# Altium schematic symbol library Wurth_Elektronik_Electromechanic_Wire_to_Board_Connectors_rev16a.SCHLIB: 662 symbols (part 4 of 10)
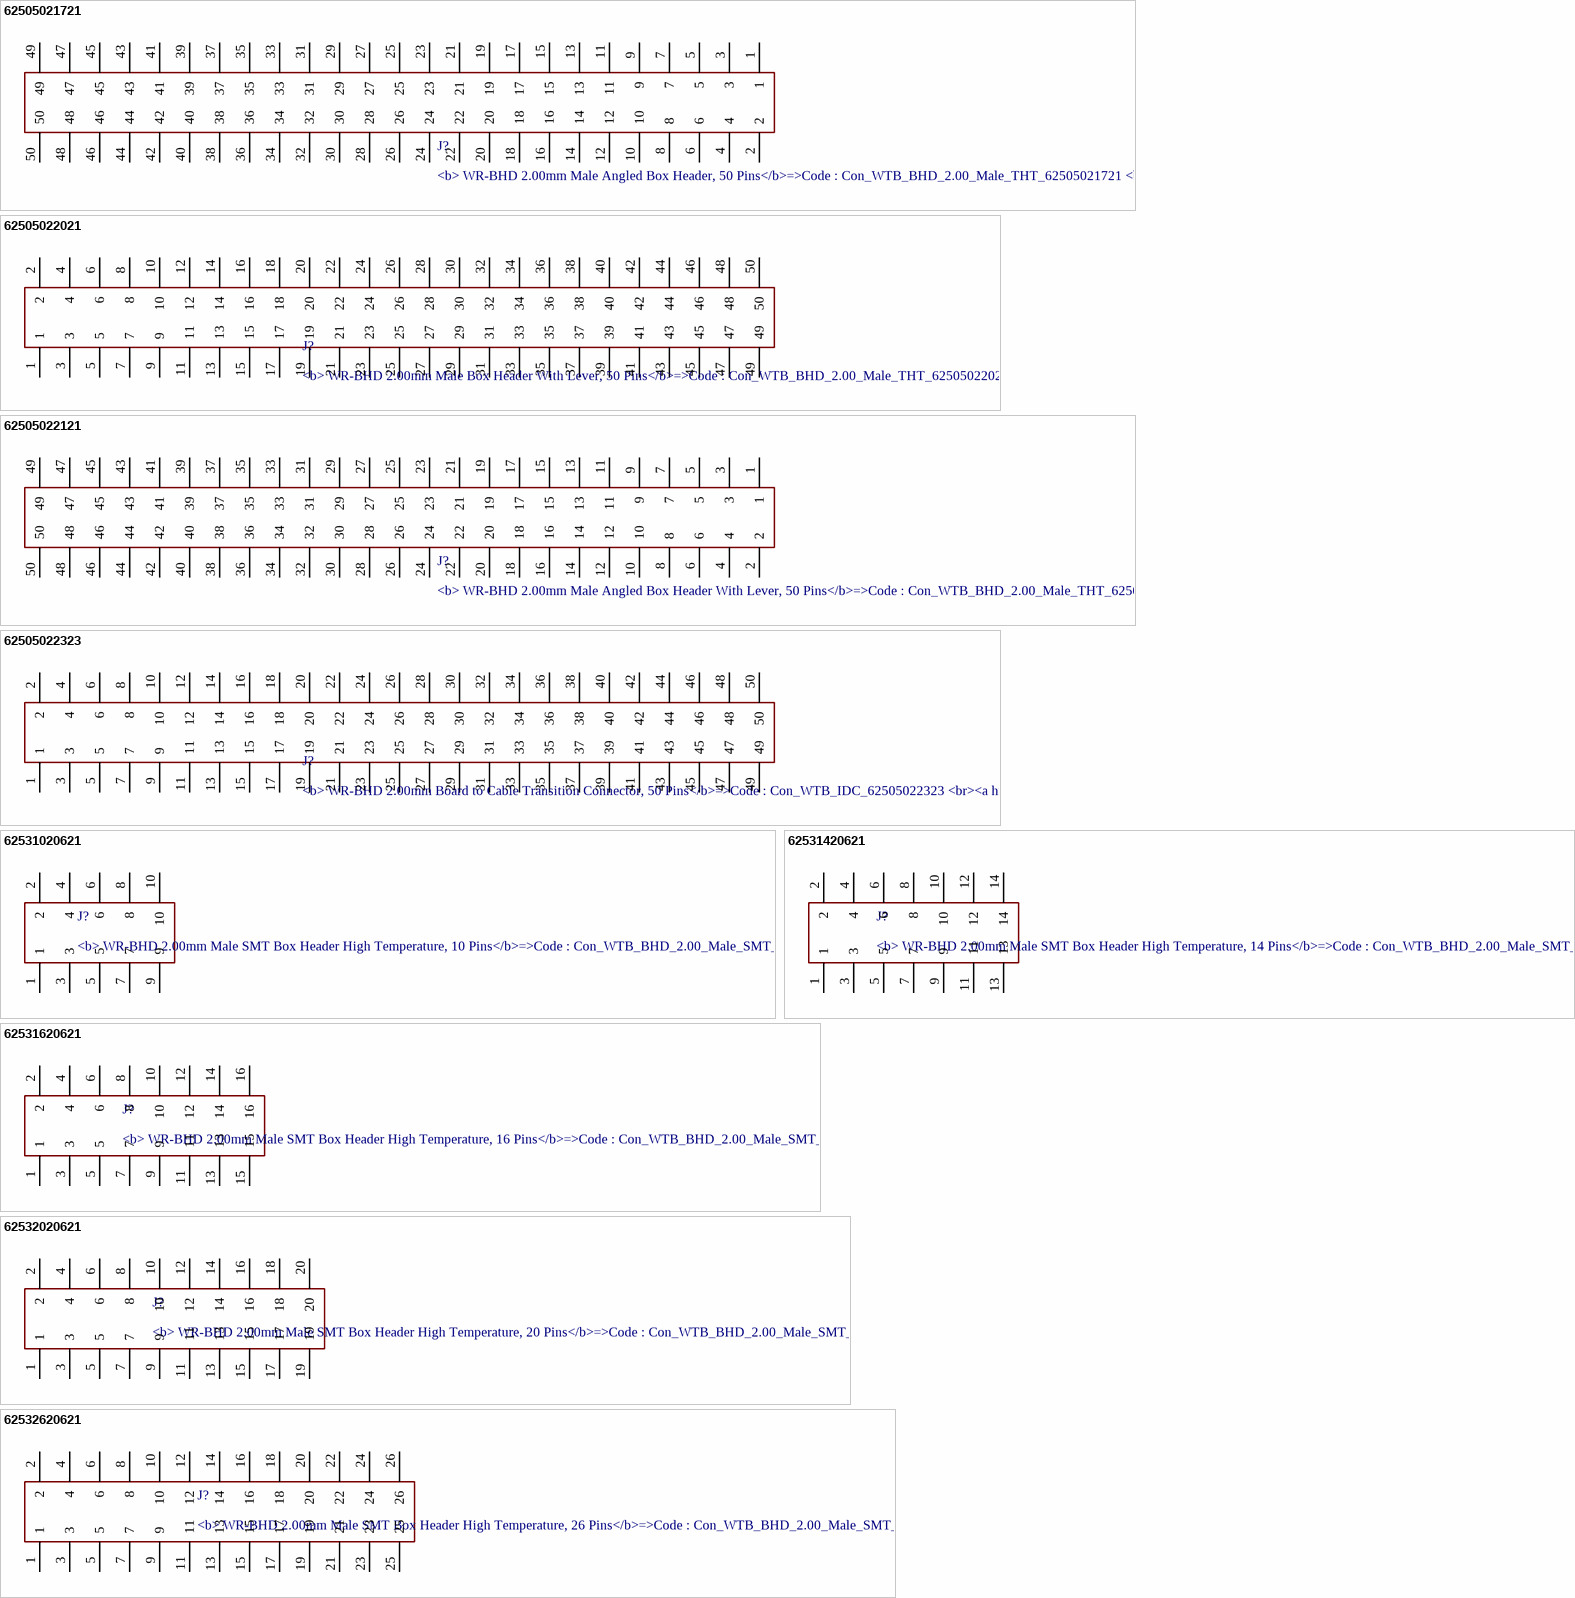
[diagram p65: symbols 62505021721 to 62532620621]

## 62505021721
designator J?, comment <b> WR-BHD 2.00mm Male Angled Box Header, 50 Pins</b>=>Code : Con_WTB_BHD_2.00_Male_THT_62505021721 / <br><a href="http://katalog.we-online.de/media/thumbs2/eican/thb_Con_WTB_BHD_2.00_Male_THT_6250xx21721_pf2.jpg" title="Enlarge picture"> / <img src="http://katalog.we-online.de/media/thumbs2/eican/thb_Con_WTB_BHD_2.00_Male_THT_6250xx21721_pf2.jpg"  width="320"></a><p> / Details see: <a href="http://katalog.we-online.de/en/em/625_0xx_217_21">http://katalog.we-online.de/en/em/625_0xx_217_21</a><p> / Created 2014-06-05, Karrer Zheng<br> / 2014 (C) Würth Elektronik
footprint 62505021721
pins: 1, 2, 3, 4, 5, 6, 7, 8, 9, 10, 11, 12, 13, 14, 15, 16, 17, 18, 19, 20, 21, 22, 23, 24, 25, 26, 27, 28, 29, 30, 31, 32, 33, 34, 35, 36, 37, 38, 39, 40, 41, 42, 43, 44, 45, 46, 47, 48, 49, 50

## 62505022021
designator J?, comment <b> WR-BHD 2.00mm Male Box Header With Lever, 50 Pins</b>=>Code : Con_WTB_BHD_2.00_Male_THT_62505022021 / <br><a href="http://katalog.we-online.de/media/thumbs2/eican/thb_Con_WTB_BHD_2.00_Male_THT_6250xx22021_pf2.jpg" title="Enlarge picture"> / <img src="http://katalog.we-online.de/media/thumbs2/eican/thb_Con_WTB_BHD_2.00_Male_THT_6250xx22021_pf2.jpg"  width="320"></a><p> / Details see: <a href="http://katalog.we-online.de/en/em/625_0xx_220_21">http://katalog.we-online.de/en/em/625_0xx_220_21</a><p> / Created 2014-06-05, Karrer Zheng<br> / 2014 (C) Würth Elektronik
footprint 62505022021
pins: 1, 2, 3, 4, 5, 6, 7, 8, 9, 10, 11, 12, 13, 14, 15, 16, 17, 18, 19, 20, 21, 22, 23, 24, 25, 26, 27, 28, 29, 30, 31, 32, 33, 34, 35, 36, 37, 38, 39, 40, 41, 42, 43, 44, 45, 46, 47, 48, 49, 50

## 62505022121
designator J?, comment <b> WR-BHD 2.00mm Male Angled Box Header With Lever, 50 Pins</b>=>Code : Con_WTB_BHD_2.00_Male_THT_62505022121 / <br><a href="http://katalog.we-online.de/media/thumbs2/eican/thb_Con_WTB_BHD_2.00_Male_THT_6250xx22121_pf2.jpg" title="Enlarge picture"> / <img src="http://katalog.we-online.de/media/thumbs2/eican/thb_Con_WTB_BHD_2.00_Male_THT_6250xx22121_pf2.jpg"  width="320"></a><p> / Details see: <a href="http://katalog.we-online.de/en/em/625_0xx_221_21">http://katalog.we-online.de/en/em/625_0xx_221_21</a><p> / Created 2014-06-05, Karrer Zheng<br> / 2014 (C) Würth Elektronik
footprint 62505022121
pins: 1, 2, 3, 4, 5, 6, 7, 8, 9, 10, 11, 12, 13, 14, 15, 16, 17, 18, 19, 20, 21, 22, 23, 24, 25, 26, 27, 28, 29, 30, 31, 32, 33, 34, 35, 36, 37, 38, 39, 40, 41, 42, 43, 44, 45, 46, 47, 48, 49, 50

## 62505022323
designator J?, comment <b> WR-BHD 2.00mm Board to Cable Transition Connector, 50 Pins</b>=>Code : Con_WTB_IDC_62505022323 / <br><a href="http://katalog.we-online.de/media/thumbs2/eican/thb_Con_WTB_IDC_6250xx22323_pf2.jpg" title="Enlarge picture"> / <img src="http://katalog.we-online.de/media/thumbs2/eican/thb_Con_WTB_IDC_6250xx22323_pf2.jpg"  width="320"></a><p> / Details see: <a href="http://katalog.we-online.de/en/em/625_0xx_223_23">http://katalog.we-online.de/en/em/625_0xx_223_23</a><p> / Created 2014-06-05, Karrer Zheng<br> / 2014 (C) Würth Elektronik
footprint 62505022323
pins: 1, 2, 3, 4, 5, 6, 7, 8, 9, 10, 11, 12, 13, 14, 15, 16, 17, 18, 19, 20, 21, 22, 23, 24, 25, 26, 27, 28, 29, 30, 31, 32, 33, 34, 35, 36, 37, 38, 39, 40, 41, 42, 43, 44, 45, 46, 47, 48, 49, 50

## 62531020621
designator J?, comment <b> WR-BHD 2.00mm Male SMT Box Header High Temperature, 10 Pins</b>=>Code : Con_WTB_BHD_2.00_Male_SMT_62531020621 / <br><a href="http://katalog.we-online.de/media/thumbs2/eican/thb_Con_WTB_BHD_2.00_Male_SMT_6253xx20621_pf2.jpg" title="Enlarge picture"> / <img src="http://katalog.we-online.de/media/thumbs2/eican/thb_Con_WTB_BHD_2.00_Male_SMT_6253xx20621_pf2.jpg"  width="320"></a><p> / Details see: <a href="http://katalog.we-online.de/en/em/625_3xx_206_21">http://katalog.we-online.de/en/em/625_3xx_206_21</a><p> / Created 2014-06-05, Karrer Zheng<br> / 2014 (C) Würth Elektronik
footprint 62531020621
pins: 1, 2, 3, 4, 5, 6, 7, 8, 9, 10

## 62531420621
designator J?, comment <b> WR-BHD 2.00mm Male SMT Box Header High Temperature, 14 Pins</b>=>Code : Con_WTB_BHD_2.00_Male_SMT_62531420621 / <br><a href="http://katalog.we-online.de/media/thumbs2/eican/thb_Con_WTB_BHD_2.00_Male_SMT_6253xx20621_pf2.jpg" title="Enlarge picture"> / <img src="http://katalog.we-online.de/media/thumbs2/eican/thb_Con_WTB_BHD_2.00_Male_SMT_6253xx20621_pf2.jpg"  width="320"></a><p> / Details see: <a href="http://katalog.we-online.de/en/em/625_3xx_206_21">http://katalog.we-online.de/en/em/625_3xx_206_21</a><p> / Created 2014-06-05, Karrer Zheng<br> / 2014 (C) Würth Elektronik
footprint 62531420621
pins: 1, 2, 3, 4, 5, 6, 7, 8, 9, 10, 11, 12, 13, 14

## 62531620621
designator J?, comment <b> WR-BHD 2.00mm Male SMT Box Header High Temperature, 16 Pins</b>=>Code : Con_WTB_BHD_2.00_Male_SMT_62531620621 / <br><a href="http://katalog.we-online.de/media/thumbs2/eican/thb_Con_WTB_BHD_2.00_Male_SMT_6253xx20621_pf2.jpg" title="Enlarge picture"> / <img src="http://katalog.we-online.de/media/thumbs2/eican/thb_Con_WTB_BHD_2.00_Male_SMT_6253xx20621_pf2.jpg"  width="320"></a><p> / Details see: <a href="http://katalog.we-online.de/en/em/625_3xx_206_21">http://katalog.we-online.de/en/em/625_3xx_206_21</a><p> / Created 2014-06-05, Karrer Zheng<br> / 2014 (C) Würth Elektronik
footprint 62531620621
pins: 1, 2, 3, 4, 5, 6, 7, 8, 9, 10, 11, 12, 13, 14, 15, 16

## 62532020621
designator J?, comment <b> WR-BHD 2.00mm Male SMT Box Header High Temperature, 20 Pins</b>=>Code : Con_WTB_BHD_2.00_Male_SMT_62532020621 / <br><a href="http://katalog.we-online.de/media/thumbs2/eican/thb_Con_WTB_BHD_2.00_Male_SMT_6253xx20621_pf2.jpg" title="Enlarge picture"> / <img src="http://katalog.we-online.de/media/thumbs2/eican/thb_Con_WTB_BHD_2.00_Male_SMT_6253xx20621_pf2.jpg"  width="320"></a><p> / Details see: <a href="http://katalog.we-online.de/en/em/625_3xx_206_21">http://katalog.we-online.de/en/em/625_3xx_206_21</a><p> / Created 2014-06-05, Karrer Zheng<br> / 2014 (C) Würth Elektronik
footprint 62532020621
pins: 1, 2, 3, 4, 5, 6, 7, 8, 9, 10, 11, 12, 13, 14, 15, 16, 17, 18, 19, 20

## 62532620621
designator J?, comment <b> WR-BHD 2.00mm Male SMT Box Header High Temperature, 26 Pins</b>=>Code : Con_WTB_BHD_2.00_Male_SMT_62532620621 / <br><a href="http://katalog.we-online.de/media/thumbs2/eican/thb_Con_WTB_BHD_2.00_Male_SMT_6253xx20621_pf2.jpg" title="Enlarge picture"> / <img src="http://katalog.we-online.de/media/thumbs2/eican/thb_Con_WTB_BHD_2.00_Male_SMT_6253xx20621_pf2.jpg"  width="320"></a><p> / Details see: <a href="http://katalog.we-online.de/en/em/625_3xx_206_21">http://katalog.we-online.de/en/em/625_3xx_206_21</a><p> / Created 2014-06-05, Karrer Zheng<br> / 2014 (C) Würth Elektronik
footprint 62532620621
pins: 1, 2, 3, 4, 5, 6, 7, 8, 9, 10, 11, 12, 13, 14, 15, 16, 17, 18, 19, 20, 21, 22, 23, 24, 25, 26

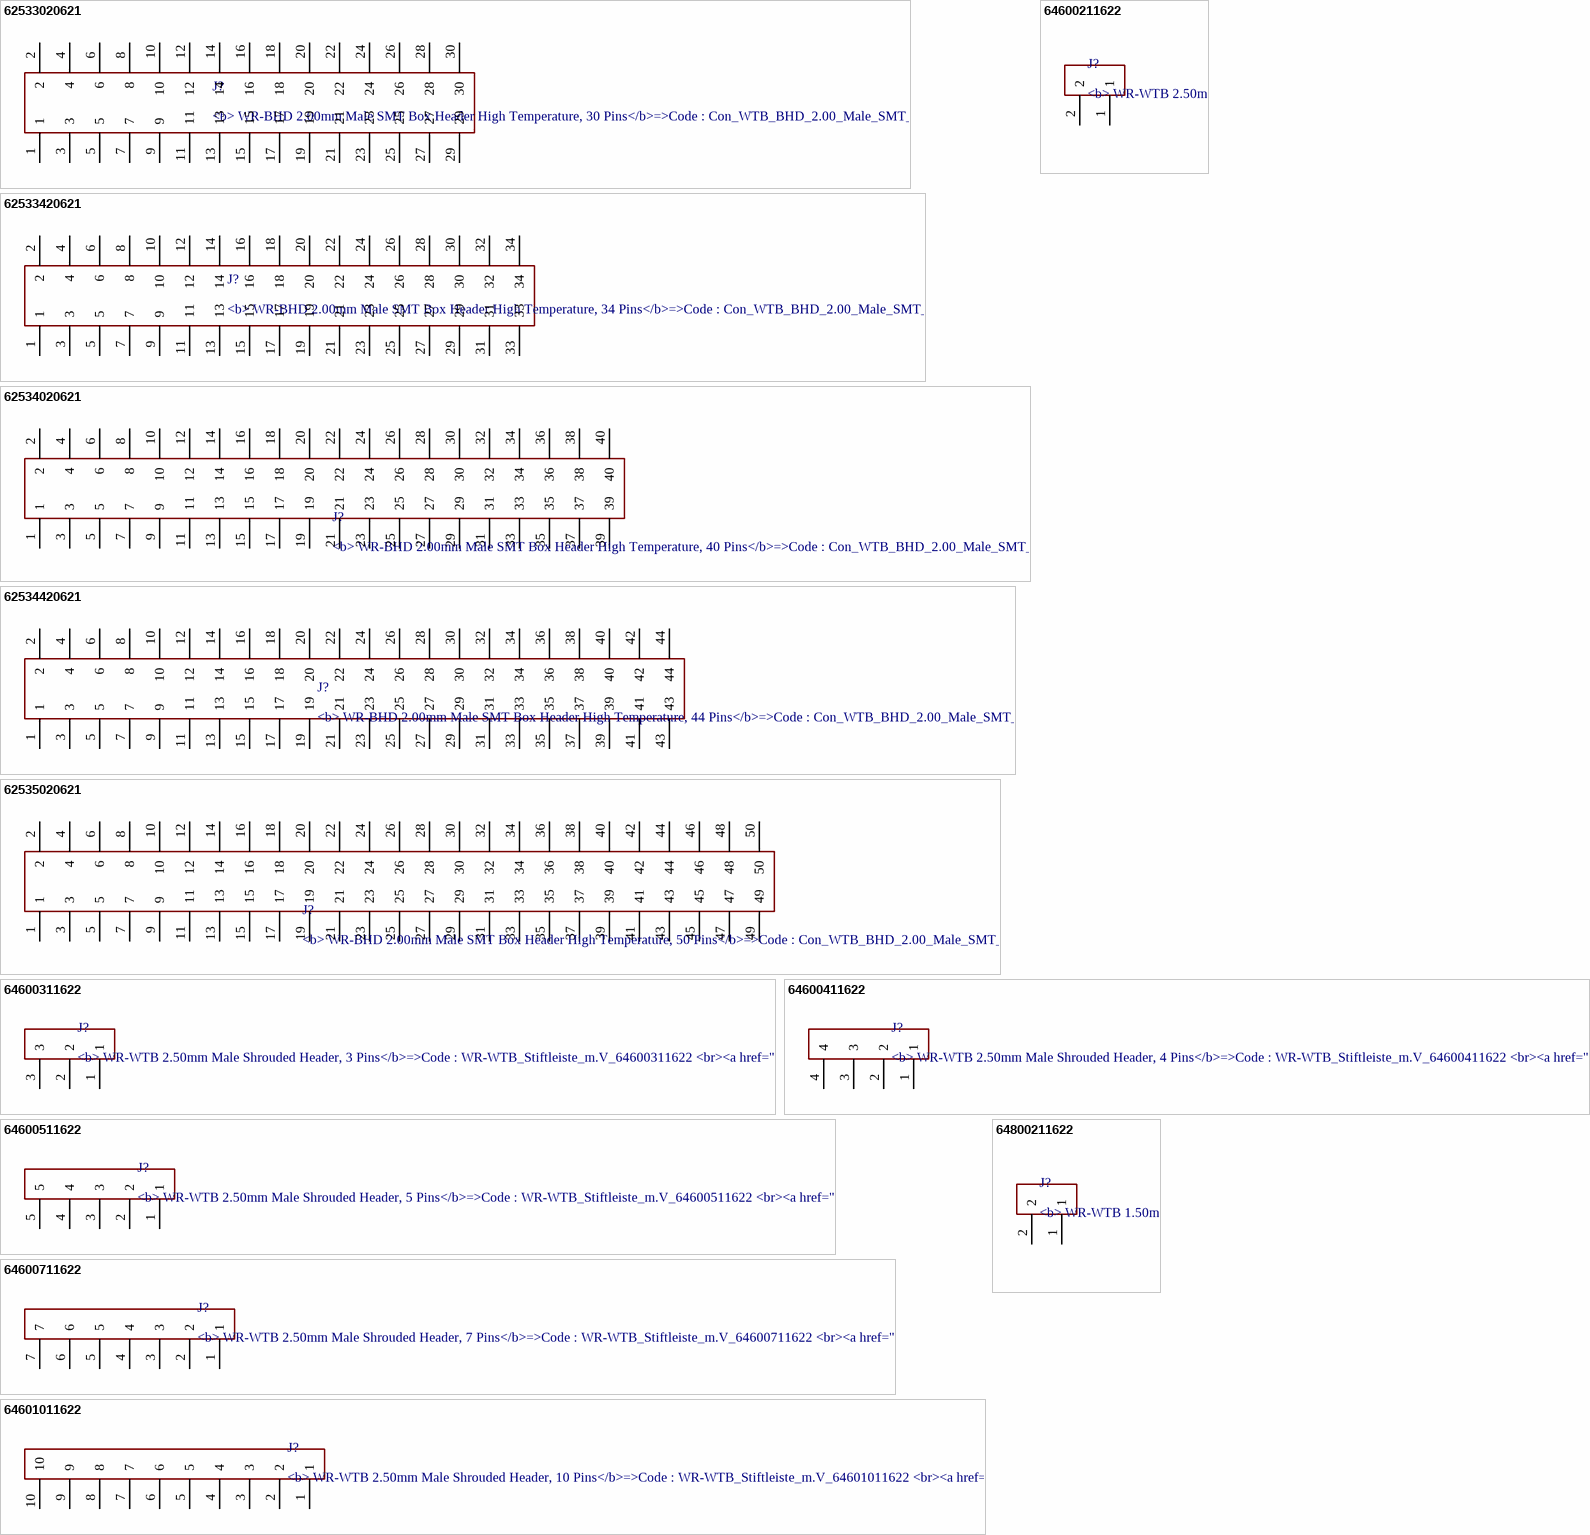
[diagram p22: symbols 62533020621 to 64800211622]

## 62533020621
designator J?, comment <b> WR-BHD 2.00mm Male SMT Box Header High Temperature, 30 Pins</b>=>Code : Con_WTB_BHD_2.00_Male_SMT_62533020621 / <br><a href="http://katalog.we-online.de/media/thumbs2/eican/thb_Con_WTB_BHD_2.00_Male_SMT_6253xx20621_pf2.jpg" title="Enlarge picture"> / <img src="http://katalog.we-online.de/media/thumbs2/eican/thb_Con_WTB_BHD_2.00_Male_SMT_6253xx20621_pf2.jpg"  width="320"></a><p> / Details see: <a href="http://katalog.we-online.de/en/em/625_3xx_206_21">http://katalog.we-online.de/en/em/625_3xx_206_21</a><p> / Created 2014-06-05, Karrer Zheng<br> / 2014 (C) Würth Elektronik
footprint 62533020621
pins: 1, 2, 3, 4, 5, 6, 7, 8, 9, 10, 11, 12, 13, 14, 15, 16, 17, 18, 19, 20, 21, 22, 23, 24, 25, 26, 27, 28, 29, 30

## 62533420621
designator J?, comment <b> WR-BHD 2.00mm Male SMT Box Header High Temperature, 34 Pins</b>=>Code : Con_WTB_BHD_2.00_Male_SMT_62533420621 / <br><a href="http://katalog.we-online.de/media/thumbs2/eican/thb_Con_WTB_BHD_2.00_Male_SMT_6253xx20621_pf2.jpg" title="Enlarge picture"> / <img src="http://katalog.we-online.de/media/thumbs2/eican/thb_Con_WTB_BHD_2.00_Male_SMT_6253xx20621_pf2.jpg"  width="320"></a><p> / Details see: <a href="http://katalog.we-online.de/en/em/625_3xx_206_21">http://katalog.we-online.de/en/em/625_3xx_206_21</a><p> / Created 2014-06-05, Karrer Zheng<br> / 2014 (C) Würth Elektronik
footprint 62533420621
pins: 1, 2, 3, 4, 5, 6, 7, 8, 9, 10, 11, 12, 13, 14, 15, 16, 17, 18, 19, 20, 21, 22, 23, 24, 25, 26, 27, 28, 29, 30, 31, 32, 33, 34

## 62534020621
designator J?, comment <b> WR-BHD 2.00mm Male SMT Box Header High Temperature, 40 Pins</b>=>Code : Con_WTB_BHD_2.00_Male_SMT_62534020621 / <br><a href="http://katalog.we-online.de/media/thumbs2/eican/thb_Con_WTB_BHD_2.00_Male_SMT_6253xx20621_pf2.jpg" title="Enlarge picture"> / <img src="http://katalog.we-online.de/media/thumbs2/eican/thb_Con_WTB_BHD_2.00_Male_SMT_6253xx20621_pf2.jpg"  width="320"></a><p> / Details see: <a href="http://katalog.we-online.de/en/em/625_3xx_206_21">http://katalog.we-online.de/en/em/625_3xx_206_21</a><p> / Created 2014-06-05, Karrer Zheng<br> / 2014 (C) Würth Elektronik
footprint 62534020621
pins: 1, 2, 3, 4, 5, 6, 7, 8, 9, 10, 11, 12, 13, 14, 15, 16, 17, 18, 19, 20, 21, 22, 23, 24, 25, 26, 27, 28, 29, 30, 31, 32, 33, 34, 35, 36, 37, 38, 39, 40

## 62534420621
designator J?, comment <b> WR-BHD 2.00mm Male SMT Box Header High Temperature, 44 Pins</b>=>Code : Con_WTB_BHD_2.00_Male_SMT_62534420621 / <br><a href="http://katalog.we-online.de/media/thumbs2/eican/thb_Con_WTB_BHD_2.00_Male_SMT_6253xx20621_pf2.jpg" title="Enlarge picture"> / <img src="http://katalog.we-online.de/media/thumbs2/eican/thb_Con_WTB_BHD_2.00_Male_SMT_6253xx20621_pf2.jpg"  width="320"></a><p> / Details see: <a href="http://katalog.we-online.de/en/em/625_3xx_206_21">http://katalog.we-online.de/en/em/625_3xx_206_21</a><p> / Created 2014-06-05, Karrer Zheng<br> / 2014 (C) Würth Elektronik
footprint 62534420621
pins: 1, 2, 3, 4, 5, 6, 7, 8, 9, 10, 11, 12, 13, 14, 15, 16, 17, 18, 19, 20, 21, 22, 23, 24, 25, 26, 27, 28, 29, 30, 31, 32, 33, 34, 35, 36, 37, 38, 39, 40, 41, 42, 43, 44

## 62535020621
designator J?, comment <b> WR-BHD 2.00mm Male SMT Box Header High Temperature, 50 Pins</b>=>Code : Con_WTB_BHD_2.00_Male_SMT_62535020621 / <br><a href="http://katalog.we-online.de/media/thumbs2/eican/thb_Con_WTB_BHD_2.00_Male_SMT_6253xx20621_pf2.jpg" title="Enlarge picture"> / <img src="http://katalog.we-online.de/media/thumbs2/eican/thb_Con_WTB_BHD_2.00_Male_SMT_6253xx20621_pf2.jpg"  width="320"></a><p> / Details see: <a href="http://katalog.we-online.de/en/em/625_3xx_206_21">http://katalog.we-online.de/en/em/625_3xx_206_21</a><p> / Created 2014-06-05, Karrer Zheng<br> / 2014 (C) Würth Elektronik
footprint 62535020621
pins: 1, 2, 3, 4, 5, 6, 7, 8, 9, 10, 11, 12, 13, 14, 15, 16, 17, 18, 19, 20, 21, 22, 23, 24, 25, 26, 27, 28, 29, 30, 31, 32, 33, 34, 35, 36, 37, 38, 39, 40, 41, 42, 43, 44, 45, 46, 47, 48, 49, 50

## 64600211622
designator J?, comment <b> WR-WTB 2.50mm Male Shrouded Header, 2 Pins</b>=>Code : WR-WTB_Stiftleiste_m.V_64600211622 / <br><a href="http://katalog.we-online.de/media/thumbs2/eican/thb_WR-WTB_Stiftleiste_m.V_64600711622.jpg" title="Enlarge picture"> / <img src="http://katalog.we-online.de/media/thumbs2/eican/thb_WR-WTB_Stiftleiste_m.V_64600711622.jpg"  width="320"></a><p> / Details see: <a href="http://katalog.we-online.de/en/em/646_0xx_116_22">http://katalog.we-online.de/en/em/646_0xx_116_22</a><p> / Created 2014-06-05, Karrer Zheng<br> / 2014 (C) Würth Elektronik
footprint 64600211622
pins: 1, 2

## 64600311622
designator J?, comment <b> WR-WTB 2.50mm Male Shrouded Header, 3 Pins</b>=>Code : WR-WTB_Stiftleiste_m.V_64600311622 / <br><a href="http://katalog.we-online.de/media/thumbs2/eican/thb_WR-WTB_Stiftleiste_m.V_64600711622.jpg" title="Enlarge picture"> / <img src="http://katalog.we-online.de/media/thumbs2/eican/thb_WR-WTB_Stiftleiste_m.V_64600711622.jpg"  width="320"></a><p> / Details see: <a href="http://katalog.we-online.de/en/em/646_0xx_116_22">http://katalog.we-online.de/en/em/646_0xx_116_22</a><p> / Created 2014-06-05, Karrer Zheng<br> / 2014 (C) Würth Elektronik
footprint 64600311622
pins: 1, 2, 3

## 64600411622
designator J?, comment <b> WR-WTB 2.50mm Male Shrouded Header, 4 Pins</b>=>Code : WR-WTB_Stiftleiste_m.V_64600411622 / <br><a href="http://katalog.we-online.de/media/thumbs2/eican/thb_WR-WTB_Stiftleiste_m.V_64600711622.jpg" title="Enlarge picture"> / <img src="http://katalog.we-online.de/media/thumbs2/eican/thb_WR-WTB_Stiftleiste_m.V_64600711622.jpg"  width="320"></a><p> / Details see: <a href="http://katalog.we-online.de/en/em/646_0xx_116_22">http://katalog.we-online.de/en/em/646_0xx_116_22</a><p> / Created 2014-06-05, Karrer Zheng<br> / 2014 (C) Würth Elektronik
footprint 64600411622
pins: 1, 2, 3, 4

## 64600511622
designator J?, comment <b> WR-WTB 2.50mm Male Shrouded Header, 5 Pins</b>=>Code : WR-WTB_Stiftleiste_m.V_64600511622 / <br><a href="http://katalog.we-online.de/media/thumbs2/eican/thb_WR-WTB_Stiftleiste_m.V_64600711622.jpg" title="Enlarge picture"> / <img src="http://katalog.we-online.de/media/thumbs2/eican/thb_WR-WTB_Stiftleiste_m.V_64600711622.jpg"  width="320"></a><p> / Details see: <a href="http://katalog.we-online.de/en/em/646_0xx_116_22">http://katalog.we-online.de/en/em/646_0xx_116_22</a><p> / Created 2014-06-05, Karrer Zheng<br> / 2014 (C) Würth Elektronik
footprint 64600511622
pins: 1, 2, 3, 4, 5

## 64600711622
designator J?, comment <b> WR-WTB 2.50mm Male Shrouded Header, 7 Pins</b>=>Code : WR-WTB_Stiftleiste_m.V_64600711622 / <br><a href="http://katalog.we-online.de/media/thumbs2/eican/thb_WR-WTB_Stiftleiste_m.V_64600711622.jpg" title="Enlarge picture"> / <img src="http://katalog.we-online.de/media/thumbs2/eican/thb_WR-WTB_Stiftleiste_m.V_64600711622.jpg"  width="320"></a><p> / Details see: <a href="http://katalog.we-online.de/en/em/646_0xx_116_22">http://katalog.we-online.de/en/em/646_0xx_116_22</a><p> / Created 2014-06-05, Karrer Zheng<br> / 2014 (C) Würth Elektronik
footprint 64600711622
pins: 1, 2, 3, 4, 5, 6, 7

## 64601011622
designator J?, comment <b> WR-WTB 2.50mm Male Shrouded Header, 10 Pins</b>=>Code : WR-WTB_Stiftleiste_m.V_64601011622 / <br><a href="http://katalog.we-online.de/media/thumbs2/eican/thb_WR-WTB_Stiftleiste_m.V_64600711622.jpg" title="Enlarge picture"> / <img src="http://katalog.we-online.de/media/thumbs2/eican/thb_WR-WTB_Stiftleiste_m.V_64600711622.jpg"  width="320"></a><p> / Details see: <a href="http://katalog.we-online.de/en/em/646_0xx_116_22">http://katalog.we-online.de/en/em/646_0xx_116_22</a><p> / Created 2014-06-05, Karrer Zheng<br> / 2014 (C) Würth Elektronik
footprint 64601011622
pins: 1, 2, 3, 4, 5, 6, 7, 8, 9, 10

## 64800211622
designator J?, comment <b> WR-WTB 1.50mm Male Vertical Shrouded Header, 2 Pins</b>=>Code : Con_WTB_1.50_PCB_THT_64800211622 / <br><a href="http://katalog.we-online.de/media/thumbs2/eican/thb_Con_WTB_1.50_PCB_THT_6480xx11622_pf2.jpg" title="Enlarge picture"> / <img src="http://katalog.we-online.de/media/thumbs2/eican/thb_Con_WTB_1.50_PCB_THT_6480xx11622_pf2.jpg"  width="320"></a><p> / Details see: <a href="http://katalog.we-online.de/en/em/648_0xx_116_22">http://katalog.we-online.de/en/em/648_0xx_116_22</a><p> / Created 2014-06-05, Karrer Zheng<br> / 2014 (C) Würth Elektronik
footprint 64800211622
pins: 1, 2

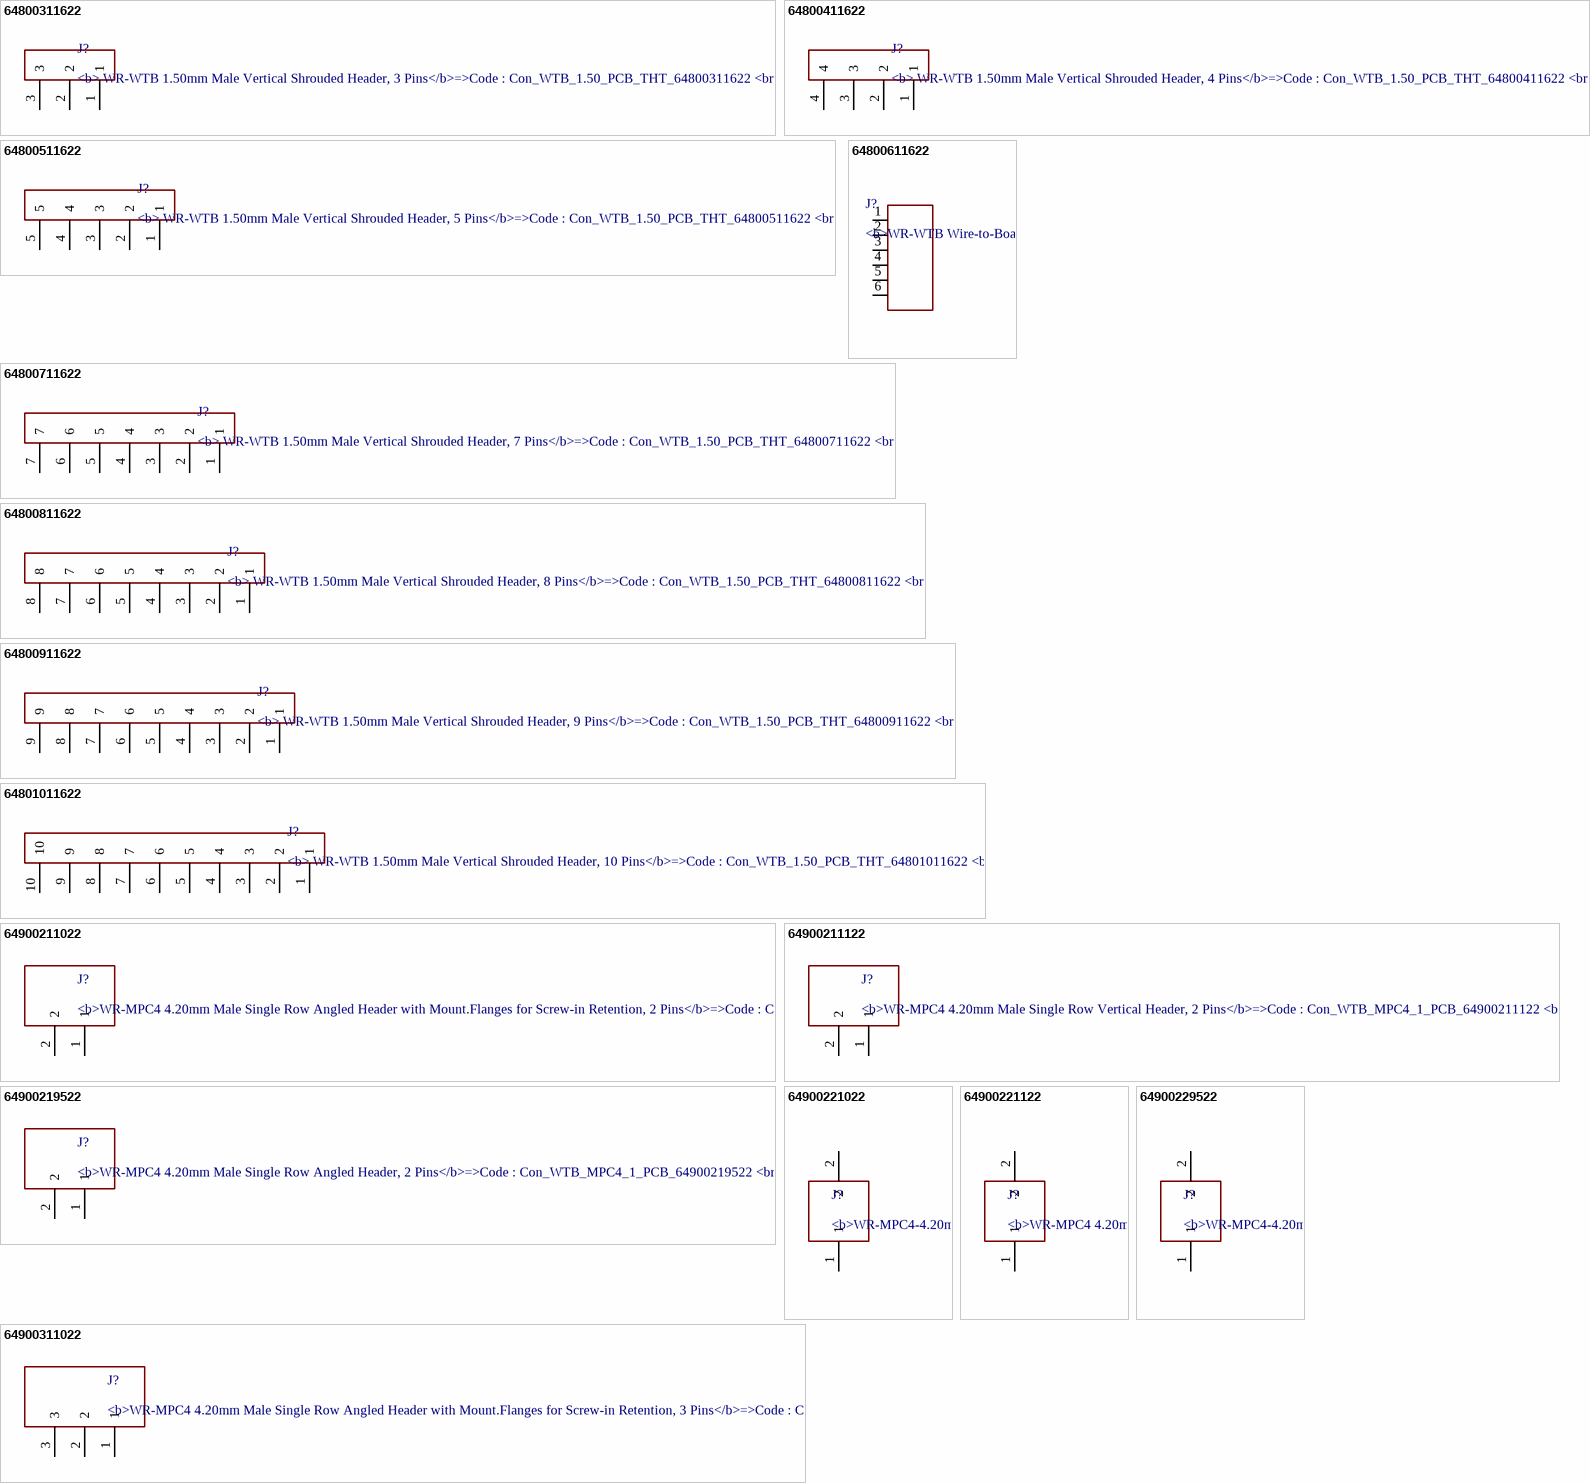
[diagram p23: symbols 64800311622 to 64900311022]

## 64800311622
designator J?, comment <b> WR-WTB 1.50mm Male Vertical Shrouded Header, 3 Pins</b>=>Code : Con_WTB_1.50_PCB_THT_64800311622 / <br><a href="http://katalog.we-online.de/media/thumbs2/eican/thb_Con_WTB_1.50_PCB_THT_6480xx11622_pf2.jpg" title="Enlarge picture"> / <img src="http://katalog.we-online.de/media/thumbs2/eican/thb_Con_WTB_1.50_PCB_THT_6480xx11622_pf2.jpg"  width="320"></a><p> / Details see: <a href="http://katalog.we-online.de/en/em/648_0xx_116_22">http://katalog.we-online.de/en/em/648_0xx_116_22</a><p> / Created 2014-06-05, Karrer Zheng<br> / 2014 (C) Würth Elektronik
footprint 64800311622
pins: 1, 2, 3

## 64800411622
designator J?, comment <b> WR-WTB 1.50mm Male Vertical Shrouded Header, 4 Pins</b>=>Code : Con_WTB_1.50_PCB_THT_64800411622 / <br><a href="http://katalog.we-online.de/media/thumbs2/eican/thb_Con_WTB_1.50_PCB_THT_6480xx11622_pf2.jpg" title="Enlarge picture"> / <img src="http://katalog.we-online.de/media/thumbs2/eican/thb_Con_WTB_1.50_PCB_THT_6480xx11622_pf2.jpg"  width="320"></a><p> / Details see: <a href="http://katalog.we-online.de/en/em/648_0xx_116_22">http://katalog.we-online.de/en/em/648_0xx_116_22</a><p> / Created 2014-06-05, Karrer Zheng<br> / 2014 (C) Würth Elektronik
footprint 64800411622
pins: 1, 2, 3, 4

## 64800511622
designator J?, comment <b> WR-WTB 1.50mm Male Vertical Shrouded Header, 5 Pins</b>=>Code : Con_WTB_1.50_PCB_THT_64800511622 / <br><a href="http://katalog.we-online.de/media/thumbs2/eican/thb_Con_WTB_1.50_PCB_THT_6480xx11622_pf2.jpg" title="Enlarge picture"> / <img src="http://katalog.we-online.de/media/thumbs2/eican/thb_Con_WTB_1.50_PCB_THT_6480xx11622_pf2.jpg"  width="320"></a><p> / Details see: <a href="http://katalog.we-online.de/en/em/648_0xx_116_22">http://katalog.we-online.de/en/em/648_0xx_116_22</a><p> / Created 2014-06-05, Karrer Zheng<br> / 2014 (C) Würth Elektronik
footprint 64800511622
pins: 1, 2, 3, 4, 5

## 64800611622
designator J?, comment <b>WR-WTB Wire-to-Board Connectors 1.50 mm - 6 Pins;</b>=>Code : Con_WTB_1.50_PCB_THT_6480xx11622_64800611622 / <p><a href="http://katalog.we-online.de/media/images/eican/Con_WTB_1.50_PCB_THT_6480xx11622_pf2.jpg"> / <img src="http://katalog.we-online.de/media/thumbs2/eican/thb_Con_WTB_1.50_PCB_THT_6480xx11622_pf2.jpg" width="320"></a><p> / <p>Details see: <a href="http://katalog.we-online.de/em/datasheet/6480xx11622.pdf">http://katalog.we-online.de/em/datasheet/6480xx11622.pdf</a> / <p>Created 11/27/2014, Karrer Zheng / <p>2014 (C) Wurth Elektronik
footprint 64800611622
pins: 1, 2, 3, 4, 5, 6

## 64800711622
designator J?, comment <b> WR-WTB 1.50mm Male Vertical Shrouded Header, 7 Pins</b>=>Code : Con_WTB_1.50_PCB_THT_64800711622 / <br><a href="http://katalog.we-online.de/media/thumbs2/eican/thb_Con_WTB_1.50_PCB_THT_6480xx11622_pf2.jpg" title="Enlarge picture"> / <img src="http://katalog.we-online.de/media/thumbs2/eican/thb_Con_WTB_1.50_PCB_THT_6480xx11622_pf2.jpg"  width="320"></a><p> / Details see: <a href="http://katalog.we-online.de/en/em/648_0xx_116_22">http://katalog.we-online.de/en/em/648_0xx_116_22</a><p> / Created 2014-06-05, Karrer Zheng<br> / 2014 (C) Würth Elektronik
footprint 64800711622
pins: 1, 2, 3, 4, 5, 6, 7

## 64800811622
designator J?, comment <b> WR-WTB 1.50mm Male Vertical Shrouded Header, 8 Pins</b>=>Code : Con_WTB_1.50_PCB_THT_64800811622 / <br><a href="http://katalog.we-online.de/media/thumbs2/eican/thb_Con_WTB_1.50_PCB_THT_6480xx11622_pf2.jpg" title="Enlarge picture"> / <img src="http://katalog.we-online.de/media/thumbs2/eican/thb_Con_WTB_1.50_PCB_THT_6480xx11622_pf2.jpg"  width="320"></a><p> / Details see: <a href="http://katalog.we-online.de/en/em/648_0xx_116_22">http://katalog.we-online.de/en/em/648_0xx_116_22</a><p> / Created 2014-06-05, Karrer Zheng<br> / 2014 (C) Würth Elektronik
footprint 64800811622
pins: 1, 2, 3, 4, 5, 6, 7, 8

## 64800911622
designator J?, comment <b> WR-WTB 1.50mm Male Vertical Shrouded Header, 9 Pins</b>=>Code : Con_WTB_1.50_PCB_THT_64800911622 / <br><a href="http://katalog.we-online.de/media/thumbs2/eican/thb_Con_WTB_1.50_PCB_THT_6480xx11622_pf2.jpg" title="Enlarge picture"> / <img src="http://katalog.we-online.de/media/thumbs2/eican/thb_Con_WTB_1.50_PCB_THT_6480xx11622_pf2.jpg"  width="320"></a><p> / Details see: <a href="http://katalog.we-online.de/en/em/648_0xx_116_22">http://katalog.we-online.de/en/em/648_0xx_116_22</a><p> / Created 2014-06-05, Karrer Zheng<br> / 2014 (C) Würth Elektronik
footprint 64800911622
pins: 1, 2, 3, 4, 5, 6, 7, 8, 9

## 64801011622
designator J?, comment <b> WR-WTB 1.50mm Male Vertical Shrouded Header, 10 Pins</b>=>Code : Con_WTB_1.50_PCB_THT_64801011622 / <br><a href="http://katalog.we-online.de/media/thumbs2/eican/thb_Con_WTB_1.50_PCB_THT_6480xx11622_pf2.jpg" title="Enlarge picture"> / <img src="http://katalog.we-online.de/media/thumbs2/eican/thb_Con_WTB_1.50_PCB_THT_6480xx11622_pf2.jpg"  width="320"></a><p> / Details see: <a href="http://katalog.we-online.de/en/em/648_0xx_116_22">http://katalog.we-online.de/en/em/648_0xx_116_22</a><p> / Created 2014-06-05, Karrer Zheng<br> / 2014 (C) Würth Elektronik
footprint 64801011622
pins: 1, 2, 3, 4, 5, 6, 7, 8, 9, 10

## 64900211022
designator J?, comment <b>WR-MPC4 4.20mm Male Single Row Angled Header with Mount.Flanges for Screw-in Retention, 2 Pins</b>=>Code : Con_WTB_MPC4_1_PCB_64900211022 / <br><a href="http://katalog.we-online.de/media/thumbs2/eican/thb_Con_WTB_MPC4_1_PCB_6490xx11022_pf2.jpg" title="Enlarge picture"> / <img src="http://katalog.we-online.de/media/thumbs2/eican/thb_Con_WTB_MPC4_1_PCB_6490xx11022_pf2.jpg"  width="320"></a><p> / Details see: <a href="http://katalog.we-online.de/en/em/649_0xx_110_22">http://katalog.we-online.de/en/em/649_0xx_110_22</a><p> / Created 2014-06-06, Karrer Zheng<br> / 2014 (C) Würth Elektronik
footprint 64900211022
pins: 1, 2

## 64900211122
designator J?, comment <b>WR-MPC4 4.20mm Male Single Row Vertical Header, 2 Pins</b>=>Code : Con_WTB_MPC4_1_PCB_64900211122 / <br><a href="http://katalog.we-online.de/media/thumbs2/eican/thb_Con_WTB_MPC4_1_PCB_6490xx11122_pf2.jpg" title="Enlarge picture"> / <img src="http://katalog.we-online.de/media/thumbs2/eican/thb_Con_WTB_MPC4_1_PCB_6490xx11122_pf2.jpg"  width="320"></a><p> / Details see: <a href="http://katalog.we-online.de/en/em/649_0xx_111_22">http://katalog.we-online.de/en/em/649_0xx_111_22</a><p> / Created 2014-06-06, Karrer Zheng<br> / 2014 (C) Würth Elektronik
footprint 64900211122
pins: 1, 2

## 64900219522
designator J?, comment <b>WR-MPC4 4.20mm Male Single Row Angled Header, 2 Pins</b>=>Code : Con_WTB_MPC4_1_PCB_64900219522 / <br><a href="http://katalog.we-online.de/media/thumbs2/eican/thb_Con_WTB_MPC4_1_PCB_6490xx19522_pf2.jpg" title="Enlarge picture"> / <img src="http://katalog.we-online.de/media/thumbs2/eican/thb_Con_WTB_MPC4_1_PCB_6490xx19522_pf2.jpg"  width="320"></a><p> / Details see: <a href="http://katalog.we-online.de/en/em/649_0xx_195_22">http://katalog.we-online.de/en/em/649_0xx_195_22</a><p> / Created 2014-06-06, Karrer Zheng<br> / 2014 (C) Würth Elektronik
footprint 64900219522
pins: 1, 2

## 64900221022
designator J?, comment <b>WR-MPC4-4.20mm Male Dual Row Angled Header with Mounting Flanges for Screw-in Retention,2 pins</b>=>Code : Con_WTB_MPC4_2_PCB_64900221022 / <br><a href="http://katalog.we-online.de/media/thumbs2/eican/thb_Con_WTB_MPC4_2_PCB_6490xx21022_pf2.jpg" title="Enlarge picture"> / <img src="http://katalog.we-online.de/media/thumbs2/eican/thb_Con_WTB_MPC4_2_PCB_6490xx21022_pf2.jpg"  width="320"></a><p> / Details see: <a href="http://katalog.we-online.de/en/em/649_0xx_210_22">http://katalog.we-online.de/en/em/649_0xx_210_22</a><p> / Created 2014-06-06, Karrer Zheng<br> / 2014 (C) Würth Elektronik
footprint 64900221022
pins: 1, 2

## 64900221122
designator J?, comment <b>WR-MPC4 4.20mm Male Dual Row Vertical Header, 2 Pins</b>=>Code : Con_WTB_MPC4_2_PCB_64900221122 / <br><a href="http://katalog.we-online.de/media/thumbs2/eican/thb_Con_WTB_MPC4_2_PCB_6490xx21122_pf2.jpg" title="Enlarge picture"> / <img src="http://katalog.we-online.de/media/thumbs2/eican/thb_Con_WTB_MPC4_2_PCB_6490xx21122_pf2.jpg"  width="320"></a><p> / Details see: <a href="http://katalog.we-online.de/en/em/649_0xx_211_22">http://katalog.we-online.de/en/em/649_0xx_211_22</a><p> / Created 2014-06-06, Karrer Zheng<br> / 2014 (C) Würth Elektronik
footprint 64900221122
pins: 1, 2

## 64900229522
designator J?, comment <b>WR-MPC4-4.20mm Male Dual Row Angled Header,2 pins</b>=>Code : WR-MPC4_Stiftbuchse_2reihig_abgewinkelt_64900229522 / <br><a href="http://katalog.we-online.de/media/thumbs2/eican/thb_WR-MPC4_Stiftbuchse_2reihig_abgewinkelt_64901029522.jpg" title="Enlarge picture"> / <img src="http://katalog.we-online.de/media/thumbs2/eican/thb_WR-MPC4_Stiftbuchse_2reihig_abgewinkelt_64901029522.jpg"  width="320"></a><p> / Details see: <a href="http://katalog.we-online.de/en/em/649_0xx_295_22">http://katalog.we-online.de/en/em/649_0xx_295_22</a><p> / Created 2014-06-06, Karrer Zheng<br> / 2014 (C) Würth Elektronik
footprint 64900229522
pins: 1, 2

## 64900311022
designator J?, comment <b>WR-MPC4 4.20mm Male Single Row Angled Header with Mount.Flanges for Screw-in Retention, 3 Pins</b>=>Code : Con_WTB_MPC4_1_PCB_64900311022 / <br><a href="http://katalog.we-online.de/media/thumbs2/eican/thb_Con_WTB_MPC4_1_PCB_6490xx11022_pf2.jpg" title="Enlarge picture"> / <img src="http://katalog.we-online.de/media/thumbs2/eican/thb_Con_WTB_MPC4_1_PCB_6490xx11022_pf2.jpg"  width="320"></a><p> / Details see: <a href="http://katalog.we-online.de/en/em/649_0xx_110_22">http://katalog.we-online.de/en/em/649_0xx_110_22</a><p> / Created 2014-06-06, Karrer Zheng<br> / 2014 (C) Würth Elektronik
footprint 64900311022
pins: 1, 2, 3

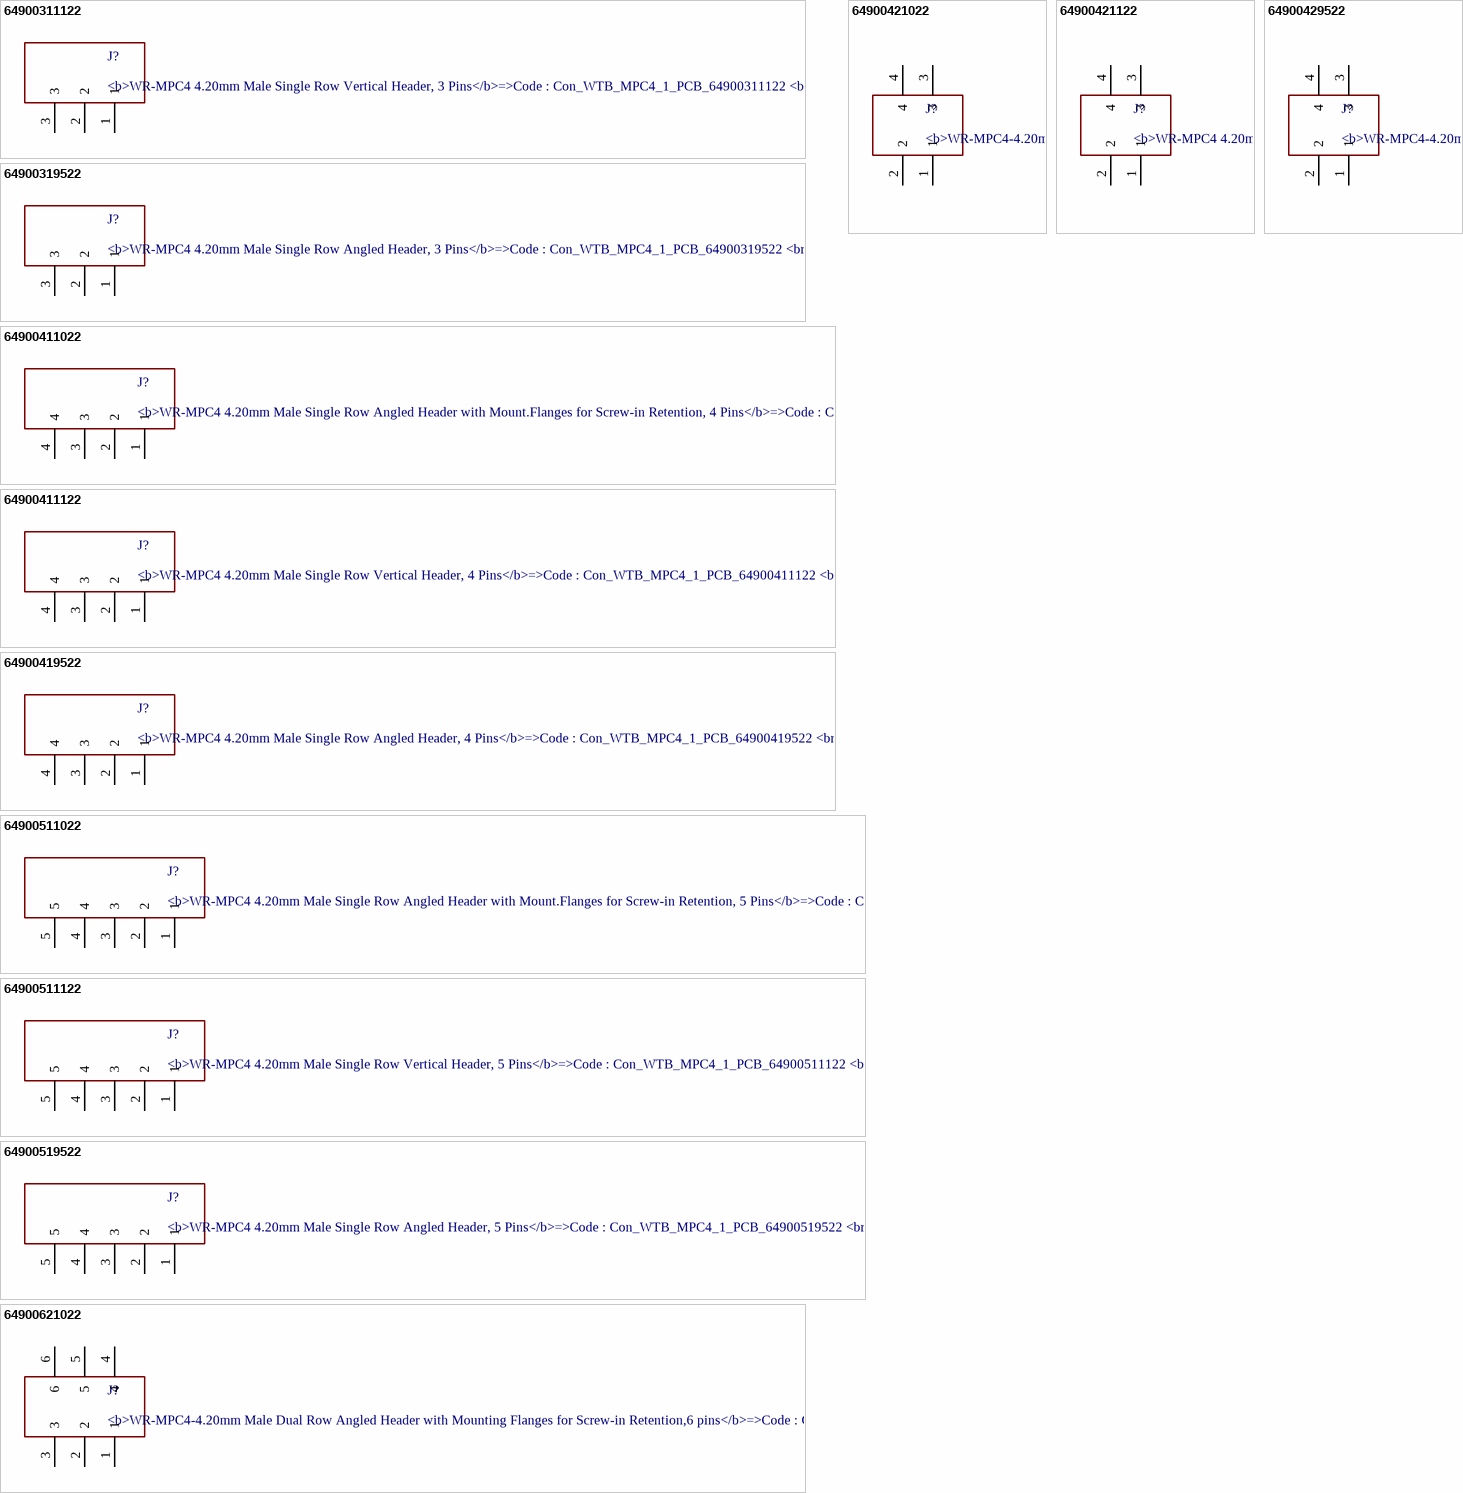
[diagram p24: symbols 64900311122 to 64900621022]

## 64900311122
designator J?, comment <b>WR-MPC4 4.20mm Male Single Row Vertical Header, 3 Pins</b>=>Code : Con_WTB_MPC4_1_PCB_64900311122 / <br><a href="http://katalog.we-online.de/media/thumbs2/eican/thb_Con_WTB_MPC4_1_PCB_6490xx11122_pf2.jpg" title="Enlarge picture"> / <img src="http://katalog.we-online.de/media/thumbs2/eican/thb_Con_WTB_MPC4_1_PCB_6490xx11122_pf2.jpg"  width="320"></a><p> / Details see: <a href="http://katalog.we-online.de/en/em/649_0xx_111_22">http://katalog.we-online.de/en/em/649_0xx_111_22</a><p> / Created 2014-06-06, Karrer Zheng<br> / 2014 (C) Würth Elektronik
footprint 64900311122
pins: 1, 2, 3

## 64900319522
designator J?, comment <b>WR-MPC4 4.20mm Male Single Row Angled Header, 3 Pins</b>=>Code : Con_WTB_MPC4_1_PCB_64900319522 / <br><a href="http://katalog.we-online.de/media/thumbs2/eican/thb_Con_WTB_MPC4_1_PCB_6490xx19522_pf2.jpg" title="Enlarge picture"> / <img src="http://katalog.we-online.de/media/thumbs2/eican/thb_Con_WTB_MPC4_1_PCB_6490xx19522_pf2.jpg"  width="320"></a><p> / Details see: <a href="http://katalog.we-online.de/en/em/649_0xx_195_22">http://katalog.we-online.de/en/em/649_0xx_195_22</a><p> / Created 2014-06-06, Karrer Zheng<br> / 2014 (C) Würth Elektronik
footprint 64900319522
pins: 1, 2, 3

## 64900411022
designator J?, comment <b>WR-MPC4 4.20mm Male Single Row Angled Header with Mount.Flanges for Screw-in Retention, 4 Pins</b>=>Code : Con_WTB_MPC4_1_PCB_64900411022 / <br><a href="http://katalog.we-online.de/media/thumbs2/eican/thb_Con_WTB_MPC4_1_PCB_6490xx11022_pf2.jpg" title="Enlarge picture"> / <img src="http://katalog.we-online.de/media/thumbs2/eican/thb_Con_WTB_MPC4_1_PCB_6490xx11022_pf2.jpg"  width="320"></a><p> / Details see: <a href="http://katalog.we-online.de/en/em/649_0xx_110_22">http://katalog.we-online.de/en/em/649_0xx_110_22</a><p> / Created 2014-06-06, Karrer Zheng<br> / 2014 (C) Würth Elektronik
footprint 64900411022
pins: 1, 2, 3, 4

## 64900411122
designator J?, comment <b>WR-MPC4 4.20mm Male Single Row Vertical Header, 4 Pins</b>=>Code : Con_WTB_MPC4_1_PCB_64900411122 / <br><a href="http://katalog.we-online.de/media/thumbs2/eican/thb_Con_WTB_MPC4_1_PCB_6490xx11122_pf2.jpg" title="Enlarge picture"> / <img src="http://katalog.we-online.de/media/thumbs2/eican/thb_Con_WTB_MPC4_1_PCB_6490xx11122_pf2.jpg"  width="320"></a><p> / Details see: <a href="http://katalog.we-online.de/en/em/649_0xx_111_22">http://katalog.we-online.de/en/em/649_0xx_111_22</a><p> / Created 2014-06-06, Karrer Zheng<br> / 2014 (C) Würth Elektronik
footprint 64900411122
pins: 1, 2, 3, 4

## 64900419522
designator J?, comment <b>WR-MPC4 4.20mm Male Single Row Angled Header, 4 Pins</b>=>Code : Con_WTB_MPC4_1_PCB_64900419522 / <br><a href="http://katalog.we-online.de/media/thumbs2/eican/thb_Con_WTB_MPC4_1_PCB_6490xx19522_pf2.jpg" title="Enlarge picture"> / <img src="http://katalog.we-online.de/media/thumbs2/eican/thb_Con_WTB_MPC4_1_PCB_6490xx19522_pf2.jpg"  width="320"></a><p> / Details see: <a href="http://katalog.we-online.de/en/em/649_0xx_195_22">http://katalog.we-online.de/en/em/649_0xx_195_22</a><p> / Created 2014-06-06, Karrer Zheng<br> / 2014 (C) Würth Elektronik
footprint 64900419522
pins: 1, 2, 3, 4

## 64900421022
designator J?, comment <b>WR-MPC4-4.20mm Male Dual Row Angled Header with Mounting Flanges for Screw-in Retention,4 pins</b>=>Code : Con_WTB_MPC4_2_PCB_64900421022 / <br><a href="http://katalog.we-online.de/media/thumbs2/eican/thb_Con_WTB_MPC4_2_PCB_6490xx21022_pf2.jpg" title="Enlarge picture"> / <img src="http://katalog.we-online.de/media/thumbs2/eican/thb_Con_WTB_MPC4_2_PCB_6490xx21022_pf2.jpg"  width="320"></a><p> / Details see: <a href="http://katalog.we-online.de/en/em/649_0xx_210_22">http://katalog.we-online.de/en/em/649_0xx_210_22</a><p> / Created 2014-06-06, Karrer Zheng<br> / 2014 (C) Würth Elektronik
footprint 64900421022
pins: 1, 2, 3, 4

## 64900421122
designator J?, comment <b>WR-MPC4 4.20mm Male Dual Row Vertical Header, 4 Pins</b>=>Code : Con_WTB_MPC4_2_PCB_64900421122 / <br><a href="http://katalog.we-online.de/media/thumbs2/eican/thb_Con_WTB_MPC4_2_PCB_6490xx21122_pf2.jpg" title="Enlarge picture"> / <img src="http://katalog.we-online.de/media/thumbs2/eican/thb_Con_WTB_MPC4_2_PCB_6490xx21122_pf2.jpg"  width="320"></a><p> / Details see: <a href="http://katalog.we-online.de/en/em/649_0xx_211_22">http://katalog.we-online.de/en/em/649_0xx_211_22</a><p> / Created 2014-06-06, Karrer Zheng<br> / 2014 (C) Würth Elektronik
footprint 64900421122
pins: 1, 2, 3, 4

## 64900429522
designator J?, comment <b>WR-MPC4-4.20mm Male Dual Row Angled Header,4 pins</b>=>Code : WR-MPC4_Stiftbuchse_2reihig_abgewinkelt_64900429522 / <br><a href="http://katalog.we-online.de/media/thumbs2/eican/thb_WR-MPC4_Stiftbuchse_2reihig_abgewinkelt_64901029522.jpg" title="Enlarge picture"> / <img src="http://katalog.we-online.de/media/thumbs2/eican/thb_WR-MPC4_Stiftbuchse_2reihig_abgewinkelt_64901029522.jpg"  width="320"></a><p> / Details see: <a href="http://katalog.we-online.de/en/em/649_0xx_295_22">http://katalog.we-online.de/en/em/649_0xx_295_22</a><p> / Created 2014-06-06, Karrer Zheng<br> / 2014 (C) Würth Elektronik
footprint 64900429522
pins: 1, 2, 3, 4

## 64900511022
designator J?, comment <b>WR-MPC4 4.20mm Male Single Row Angled Header with Mount.Flanges for Screw-in Retention, 5 Pins</b>=>Code : Con_WTB_MPC4_1_PCB_64900511022 / <br><a href="http://katalog.we-online.de/media/thumbs2/eican/thb_Con_WTB_MPC4_1_PCB_6490xx11022_pf2.jpg" title="Enlarge picture"> / <img src="http://katalog.we-online.de/media/thumbs2/eican/thb_Con_WTB_MPC4_1_PCB_6490xx11022_pf2.jpg"  width="320"></a><p> / Details see: <a href="http://katalog.we-online.de/en/em/649_0xx_110_22">http://katalog.we-online.de/en/em/649_0xx_110_22</a><p> / Created 2014-06-06, Karrer Zheng<br> / 2014 (C) Würth Elektronik
footprint 64900511022
pins: 1, 2, 3, 4, 5

## 64900511122
designator J?, comment <b>WR-MPC4 4.20mm Male Single Row Vertical Header, 5 Pins</b>=>Code : Con_WTB_MPC4_1_PCB_64900511122 / <br><a href="http://katalog.we-online.de/media/thumbs2/eican/thb_Con_WTB_MPC4_1_PCB_6490xx11122_pf2.jpg" title="Enlarge picture"> / <img src="http://katalog.we-online.de/media/thumbs2/eican/thb_Con_WTB_MPC4_1_PCB_6490xx11122_pf2.jpg"  width="320"></a><p> / Details see: <a href="http://katalog.we-online.de/en/em/649_0xx_111_22">http://katalog.we-online.de/en/em/649_0xx_111_22</a><p> / Created 2014-06-06, Karrer Zheng<br> / 2014 (C) Würth Elektronik
footprint 64900511122
pins: 1, 2, 3, 4, 5

## 64900519522
designator J?, comment <b>WR-MPC4 4.20mm Male Single Row Angled Header, 5 Pins</b>=>Code : Con_WTB_MPC4_1_PCB_64900519522 / <br><a href="http://katalog.we-online.de/media/thumbs2/eican/thb_Con_WTB_MPC4_1_PCB_6490xx19522_pf2.jpg" title="Enlarge picture"> / <img src="http://katalog.we-online.de/media/thumbs2/eican/thb_Con_WTB_MPC4_1_PCB_6490xx19522_pf2.jpg"  width="320"></a><p> / Details see: <a href="http://katalog.we-online.de/en/em/649_0xx_195_22">http://katalog.we-online.de/en/em/649_0xx_195_22</a><p> / Created 2014-06-06, Karrer Zheng<br> / 2014 (C) Würth Elektronik
footprint 64900519522
pins: 1, 2, 3, 4, 5

## 64900621022
designator J?, comment <b>WR-MPC4-4.20mm Male Dual Row Angled Header with Mounting Flanges for Screw-in Retention,6 pins</b>=>Code : Con_WTB_MPC4_2_PCB_64900621022 / <br><a href="http://katalog.we-online.de/media/thumbs2/eican/thb_Con_WTB_MPC4_2_PCB_6490xx21022_pf2.jpg" title="Enlarge picture"> / <img src="http://katalog.we-online.de/media/thumbs2/eican/thb_Con_WTB_MPC4_2_PCB_6490xx21022_pf2.jpg"  width="320"></a><p> / Details see: <a href="http://katalog.we-online.de/en/em/649_0xx_210_22">http://katalog.we-online.de/en/em/649_0xx_210_22</a><p> / Created 2014-06-06, Karrer Zheng<br> / 2014 (C) Würth Elektronik
footprint 64900621022
pins: 1, 2, 3, 4, 5, 6 (hiz)

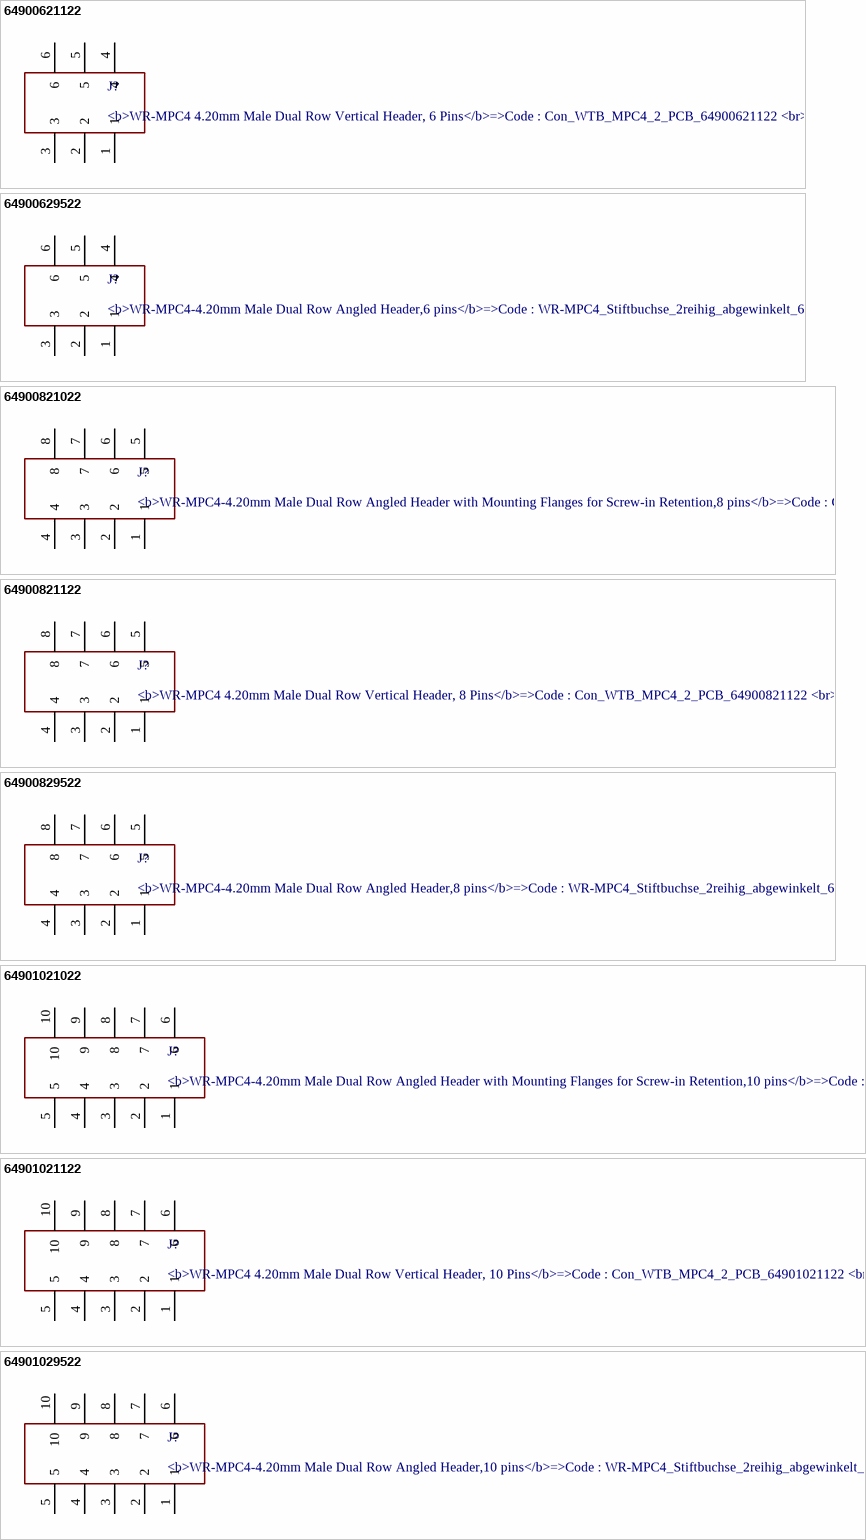
[diagram p25: symbols 64900621122 to 64901029522]

## 64900621122
designator J?, comment <b>WR-MPC4 4.20mm Male Dual Row Vertical Header, 6 Pins</b>=>Code : Con_WTB_MPC4_2_PCB_64900621122 / <br><a href="http://katalog.we-online.de/media/thumbs2/eican/thb_Con_WTB_MPC4_2_PCB_6490xx21122_pf2.jpg" title="Enlarge picture"> / <img src="http://katalog.we-online.de/media/thumbs2/eican/thb_Con_WTB_MPC4_2_PCB_6490xx21122_pf2.jpg"  width="320"></a><p> / Details see: <a href="http://katalog.we-online.de/en/em/649_0xx_211_22">http://katalog.we-online.de/en/em/649_0xx_211_22</a><p> / Created 2014-06-06, Karrer Zheng<br> / 2014 (C) Würth Elektronik
footprint 64900621122
pins: 1, 2, 3, 4, 5, 6 (hiz)

## 64900629522
designator J?, comment <b>WR-MPC4-4.20mm Male Dual Row Angled Header,6 pins</b>=>Code : WR-MPC4_Stiftbuchse_2reihig_abgewinkelt_64900629522 / <br><a href="http://katalog.we-online.de/media/thumbs2/eican/thb_WR-MPC4_Stiftbuchse_2reihig_abgewinkelt_64901029522.jpg" title="Enlarge picture"> / <img src="http://katalog.we-online.de/media/thumbs2/eican/thb_WR-MPC4_Stiftbuchse_2reihig_abgewinkelt_64901029522.jpg"  width="320"></a><p> / Details see: <a href="http://katalog.we-online.de/en/em/649_0xx_295_22">http://katalog.we-online.de/en/em/649_0xx_295_22</a><p> / Created 2014-06-06, Karrer Zheng<br> / 2014 (C) Würth Elektronik
footprint 64900629522
pins: 1, 2, 3, 4, 5, 6 (hiz)

## 64900821022
designator J?, comment <b>WR-MPC4-4.20mm Male Dual Row Angled Header with Mounting Flanges for Screw-in Retention,8 pins</b>=>Code : Con_WTB_MPC4_2_PCB_64900821022 / <br><a href="http://katalog.we-online.de/media/thumbs2/eican/thb_Con_WTB_MPC4_2_PCB_6490xx21022_pf2.jpg" title="Enlarge picture"> / <img src="http://katalog.we-online.de/media/thumbs2/eican/thb_Con_WTB_MPC4_2_PCB_6490xx21022_pf2.jpg"  width="320"></a><p> / Details see: <a href="http://katalog.we-online.de/en/em/649_0xx_210_22">http://katalog.we-online.de/en/em/649_0xx_210_22</a><p> / Created 2014-06-06, Karrer Zheng<br> / 2014 (C) Würth Elektronik
footprint 64900821022
pins: 1, 2, 3, 4, 5, 6, 7, 8

## 64900821122
designator J?, comment <b>WR-MPC4 4.20mm Male Dual Row Vertical Header, 8 Pins</b>=>Code : Con_WTB_MPC4_2_PCB_64900821122 / <br><a href="http://katalog.we-online.de/media/thumbs2/eican/thb_Con_WTB_MPC4_2_PCB_6490xx21122_pf2.jpg" title="Enlarge picture"> / <img src="http://katalog.we-online.de/media/thumbs2/eican/thb_Con_WTB_MPC4_2_PCB_6490xx21122_pf2.jpg"  width="320"></a><p> / Details see: <a href="http://katalog.we-online.de/en/em/649_0xx_211_22">http://katalog.we-online.de/en/em/649_0xx_211_22</a><p> / Created 2014-06-06, Karrer Zheng<br> / 2014 (C) Würth Elektronik
footprint 64900821122
pins: 1, 2, 3, 4, 5, 6, 7, 8

## 64900829522
designator J?, comment <b>WR-MPC4-4.20mm Male Dual Row Angled Header,8 pins</b>=>Code : WR-MPC4_Stiftbuchse_2reihig_abgewinkelt_64900829522 / <br><a href="http://katalog.we-online.de/media/thumbs2/eican/thb_WR-MPC4_Stiftbuchse_2reihig_abgewinkelt_64901029522.jpg" title="Enlarge picture"> / <img src="http://katalog.we-online.de/media/thumbs2/eican/thb_WR-MPC4_Stiftbuchse_2reihig_abgewinkelt_64901029522.jpg"  width="320"></a><p> / Details see: <a href="http://katalog.we-online.de/en/em/649_0xx_295_22">http://katalog.we-online.de/en/em/649_0xx_295_22</a><p> / Created 2014-06-06, Karrer Zheng<br> / 2014 (C) Würth Elektronik
footprint 64900829522
pins: 1, 2, 3, 4, 5, 6, 7, 8

## 64901021022
designator J?, comment <b>WR-MPC4-4.20mm Male Dual Row Angled Header with Mounting Flanges for Screw-in Retention,10 pins</b>=>Code : Con_WTB_MPC4_2_PCB_64901021022 / <br><a href="http://katalog.we-online.de/media/thumbs2/eican/thb_Con_WTB_MPC4_2_PCB_6490xx21022_pf2.jpg" title="Enlarge picture"> / <img src="http://katalog.we-online.de/media/thumbs2/eican/thb_Con_WTB_MPC4_2_PCB_6490xx21022_pf2.jpg"  width="320"></a><p> / Details see: <a href="http://katalog.we-online.de/en/em/649_0xx_210_22">http://katalog.we-online.de/en/em/649_0xx_210_22</a><p> / Created 2014-06-06, Karrer Zheng<br> / 2014 (C) Würth Elektronik
footprint 64901021022
pins: 1, 2, 3, 4, 5, 6, 7, 8, 9, 10

## 64901021122
designator J?, comment <b>WR-MPC4 4.20mm Male Dual Row Vertical Header, 10 Pins</b>=>Code : Con_WTB_MPC4_2_PCB_64901021122 / <br><a href="http://katalog.we-online.de/media/thumbs2/eican/thb_Con_WTB_MPC4_2_PCB_6490xx21122_pf2.jpg" title="Enlarge picture"> / <img src="http://katalog.we-online.de/media/thumbs2/eican/thb_Con_WTB_MPC4_2_PCB_6490xx21122_pf2.jpg"  width="320"></a><p> / Details see: <a href="http://katalog.we-online.de/en/em/649_0xx_211_22">http://katalog.we-online.de/en/em/649_0xx_211_22</a><p> / Created 2014-06-06, Karrer Zheng<br> / 2014 (C) Würth Elektronik
footprint 64901021122
pins: 1, 2, 3, 4, 5, 6, 7, 8, 9, 10

## 64901029522
designator J?, comment <b>WR-MPC4-4.20mm Male Dual Row Angled Header,10 pins</b>=>Code : WR-MPC4_Stiftbuchse_2reihig_abgewinkelt_64901029522 / <br><a href="http://katalog.we-online.de/media/thumbs2/eican/thb_WR-MPC4_Stiftbuchse_2reihig_abgewinkelt_64901029522.jpg" title="Enlarge picture"> / <img src="http://katalog.we-online.de/media/thumbs2/eican/thb_WR-MPC4_Stiftbuchse_2reihig_abgewinkelt_64901029522.jpg"  width="320"></a><p> / Details see: <a href="http://katalog.we-online.de/en/em/649_0xx_295_22">http://katalog.we-online.de/en/em/649_0xx_295_22</a><p> / Created 2014-06-06, Karrer Zheng<br> / 2014 (C) Würth Elektronik
footprint 64901029522
pins: 1, 2, 3, 4, 5, 6, 7, 8, 9, 10

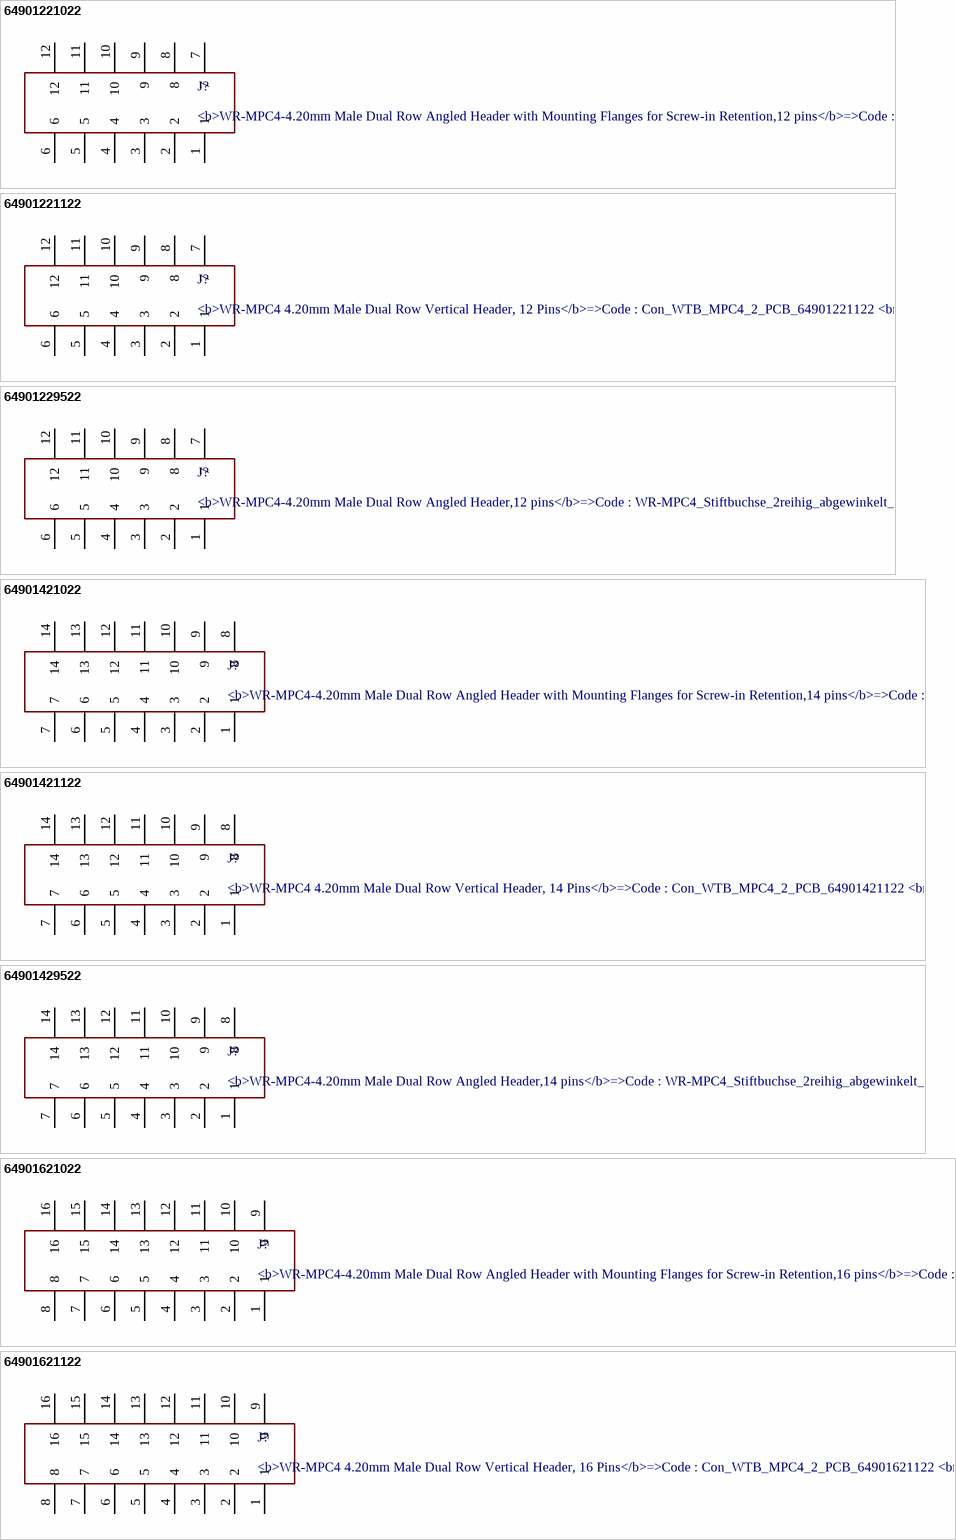
[diagram p26: symbols 64901221022 to 64901621122]

## 64901221022
designator J?, comment <b>WR-MPC4-4.20mm Male Dual Row Angled Header with Mounting Flanges for Screw-in Retention,12 pins</b>=>Code : Con_WTB_MPC4_2_PCB_64901221022 / <br><a href="http://katalog.we-online.de/media/thumbs2/eican/thb_Con_WTB_MPC4_2_PCB_6490xx21022_pf2.jpg" title="Enlarge picture"> / <img src="http://katalog.we-online.de/media/thumbs2/eican/thb_Con_WTB_MPC4_2_PCB_6490xx21022_pf2.jpg"  width="320"></a><p> / Details see: <a href="http://katalog.we-online.de/en/em/649_0xx_210_22">http://katalog.we-online.de/en/em/649_0xx_210_22</a><p> / Created 2014-06-06, Karrer Zheng<br> / 2014 (C) Würth Elektronik
footprint 64901221022
pins: 1, 2, 3, 4, 5, 6, 7, 8, 9, 10, 11, 12

## 64901221122
designator J?, comment <b>WR-MPC4 4.20mm Male Dual Row Vertical Header, 12 Pins</b>=>Code : Con_WTB_MPC4_2_PCB_64901221122 / <br><a href="http://katalog.we-online.de/media/thumbs2/eican/thb_Con_WTB_MPC4_2_PCB_6490xx21122_pf2.jpg" title="Enlarge picture"> / <img src="http://katalog.we-online.de/media/thumbs2/eican/thb_Con_WTB_MPC4_2_PCB_6490xx21122_pf2.jpg"  width="320"></a><p> / Details see: <a href="http://katalog.we-online.de/en/em/649_0xx_211_22">http://katalog.we-online.de/en/em/649_0xx_211_22</a><p> / Created 2014-06-06, Karrer Zheng<br> / 2014 (C) Würth Elektronik
footprint 64901221122
pins: 1, 2, 3, 4, 5, 6, 7, 8, 9, 10, 11, 12

## 64901229522
designator J?, comment <b>WR-MPC4-4.20mm Male Dual Row Angled Header,12 pins</b>=>Code : WR-MPC4_Stiftbuchse_2reihig_abgewinkelt_64901229522 / <br><a href="http://katalog.we-online.de/media/thumbs2/eican/thb_WR-MPC4_Stiftbuchse_2reihig_abgewinkelt_64901029522.jpg" title="Enlarge picture"> / <img src="http://katalog.we-online.de/media/thumbs2/eican/thb_WR-MPC4_Stiftbuchse_2reihig_abgewinkelt_64901029522.jpg"  width="320"></a><p> / Details see: <a href="http://katalog.we-online.de/en/em/649_0xx_295_22">http://katalog.we-online.de/en/em/649_0xx_295_22</a><p> / Created 2014-06-06, Karrer Zheng<br> / 2014 (C) Würth Elektronik
footprint 64901229522
pins: 1, 2, 3, 4, 5, 6, 7, 8, 9, 10, 11, 12

## 64901421022
designator J?, comment <b>WR-MPC4-4.20mm Male Dual Row Angled Header with Mounting Flanges for Screw-in Retention,14 pins</b>=>Code : Con_WTB_MPC4_2_PCB_64901421022 / <br><a href="http://katalog.we-online.de/media/thumbs2/eican/thb_Con_WTB_MPC4_2_PCB_6490xx21022_pf2.jpg" title="Enlarge picture"> / <img src="http://katalog.we-online.de/media/thumbs2/eican/thb_Con_WTB_MPC4_2_PCB_6490xx21022_pf2.jpg"  width="320"></a><p> / Details see: <a href="http://katalog.we-online.de/en/em/649_0xx_210_22">http://katalog.we-online.de/en/em/649_0xx_210_22</a><p> / Created 2014-06-06, Karrer Zheng<br> / 2014 (C) Würth Elektronik
footprint 64901421022
pins: 1, 2, 3, 4, 5, 6, 7, 8, 9, 10, 11, 12, 13, 14

## 64901421122
designator J?, comment <b>WR-MPC4 4.20mm Male Dual Row Vertical Header, 14 Pins</b>=>Code : Con_WTB_MPC4_2_PCB_64901421122 / <br><a href="http://katalog.we-online.de/media/thumbs2/eican/thb_Con_WTB_MPC4_2_PCB_6490xx21122_pf2.jpg" title="Enlarge picture"> / <img src="http://katalog.we-online.de/media/thumbs2/eican/thb_Con_WTB_MPC4_2_PCB_6490xx21122_pf2.jpg"  width="320"></a><p> / Details see: <a href="http://katalog.we-online.de/en/em/649_0xx_211_22">http://katalog.we-online.de/en/em/649_0xx_211_22</a><p> / Created 2014-06-06, Karrer Zheng<br> / 2014 (C) Würth Elektronik
footprint 64901421122
pins: 1, 2, 3, 4, 5, 6, 7, 8, 9, 10, 11, 12, 13, 14

## 64901429522
designator J?, comment <b>WR-MPC4-4.20mm Male Dual Row Angled Header,14 pins</b>=>Code : WR-MPC4_Stiftbuchse_2reihig_abgewinkelt_64901429522 / <br><a href="http://katalog.we-online.de/media/thumbs2/eican/thb_WR-MPC4_Stiftbuchse_2reihig_abgewinkelt_64901029522.jpg" title="Enlarge picture"> / <img src="http://katalog.we-online.de/media/thumbs2/eican/thb_WR-MPC4_Stiftbuchse_2reihig_abgewinkelt_64901029522.jpg"  width="320"></a><p> / Details see: <a href="http://katalog.we-online.de/en/em/649_0xx_295_22">http://katalog.we-online.de/en/em/649_0xx_295_22</a><p> / Created 2014-06-06, Karrer Zheng<br> / 2014 (C) Würth Elektronik
footprint 64901429522
pins: 1, 2, 3, 4, 5, 6, 7, 8, 9, 10, 11, 12, 13, 14

## 64901621022
designator J?, comment <b>WR-MPC4-4.20mm Male Dual Row Angled Header with Mounting Flanges for Screw-in Retention,16 pins</b>=>Code : Con_WTB_MPC4_2_PCB_64901621022 / <br><a href="http://katalog.we-online.de/media/thumbs2/eican/thb_Con_WTB_MPC4_2_PCB_6490xx21022_pf2.jpg" title="Enlarge picture"> / <img src="http://katalog.we-online.de/media/thumbs2/eican/thb_Con_WTB_MPC4_2_PCB_6490xx21022_pf2.jpg"  width="320"></a><p> / Details see: <a href="http://katalog.we-online.de/en/em/649_0xx_210_22">http://katalog.we-online.de/en/em/649_0xx_210_22</a><p> / Created 2014-06-06, Karrer Zheng<br> / 2014 (C) Würth Elektronik
footprint 64901621022
pins: 1, 2, 3, 4, 5, 6, 7, 8, 9, 10, 11, 12, 13, 14, 15, 16

## 64901621122
designator J?, comment <b>WR-MPC4 4.20mm Male Dual Row Vertical Header, 16 Pins</b>=>Code : Con_WTB_MPC4_2_PCB_64901621122 / <br><a href="http://katalog.we-online.de/media/thumbs2/eican/thb_Con_WTB_MPC4_2_PCB_6490xx21122_pf2.jpg" title="Enlarge picture"> / <img src="http://katalog.we-online.de/media/thumbs2/eican/thb_Con_WTB_MPC4_2_PCB_6490xx21122_pf2.jpg"  width="320"></a><p> / Details see: <a href="http://katalog.we-online.de/en/em/649_0xx_211_22">http://katalog.we-online.de/en/em/649_0xx_211_22</a><p> / Created 2014-06-06, Karrer Zheng<br> / 2014 (C) Würth Elektronik
footprint 64901621122
pins: 1, 2, 3, 4, 5, 6, 7, 8, 9, 10, 11, 12, 13, 14, 15, 16

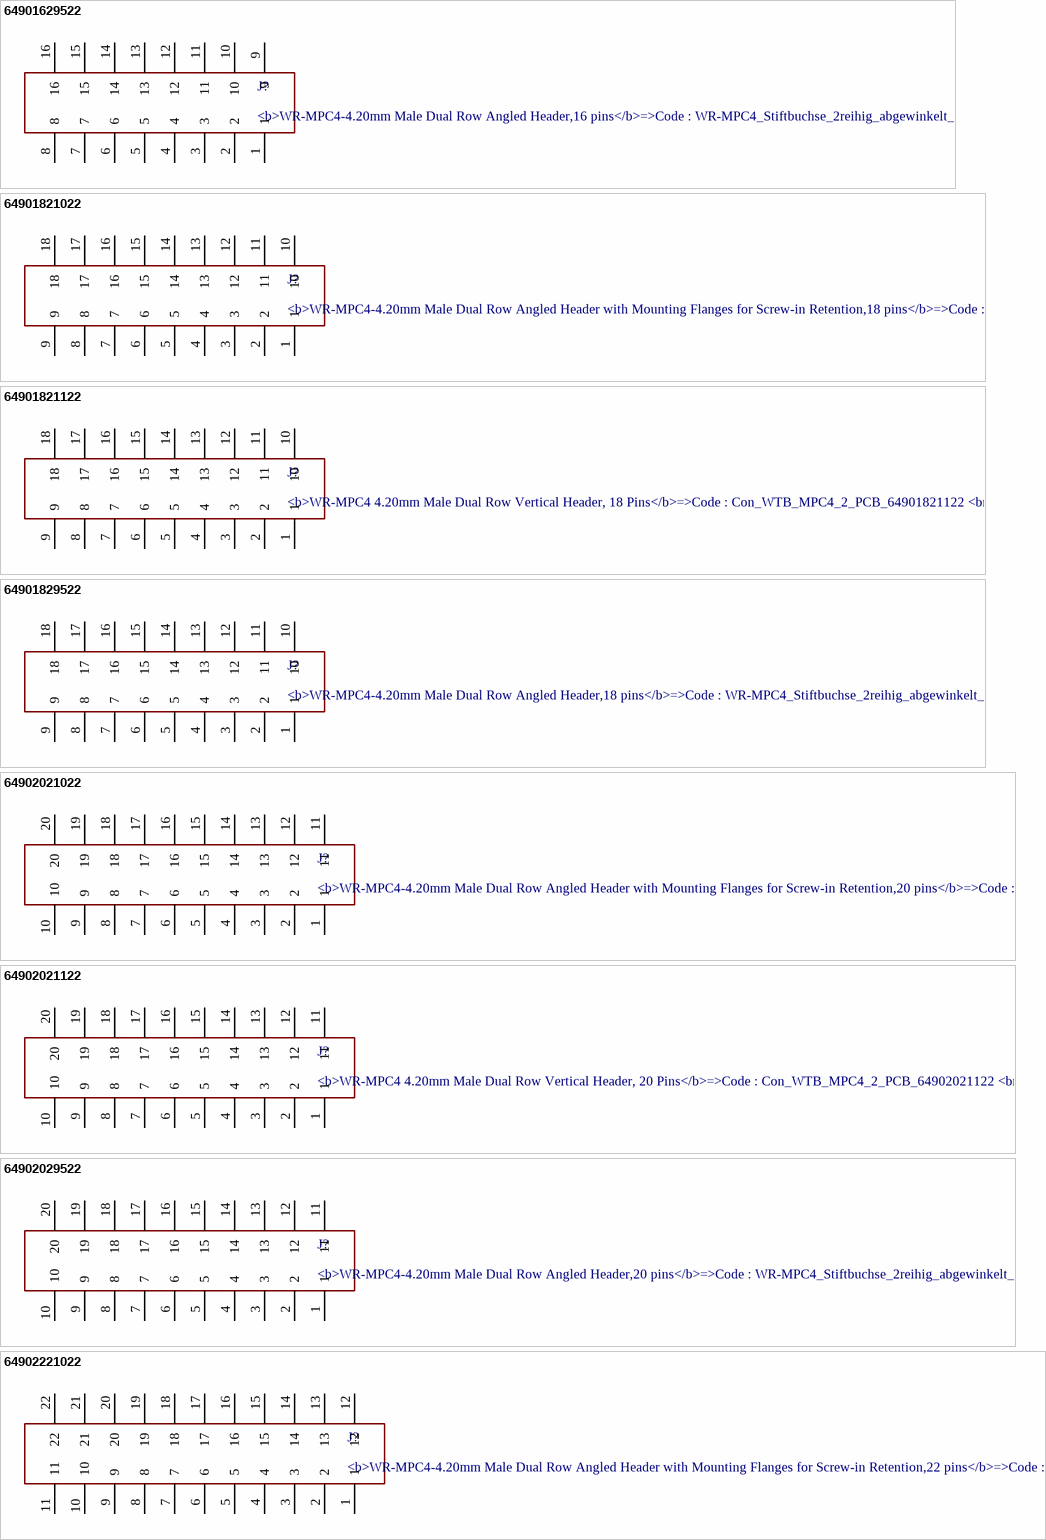
[diagram p27: symbols 64901629522 to 64902221022]

## 64901629522
designator J?, comment <b>WR-MPC4-4.20mm Male Dual Row Angled Header,16 pins</b>=>Code : WR-MPC4_Stiftbuchse_2reihig_abgewinkelt_64901629522 / <br><a href="http://katalog.we-online.de/media/thumbs2/eican/thb_WR-MPC4_Stiftbuchse_2reihig_abgewinkelt_64901029522.jpg" title="Enlarge picture"> / <img src="http://katalog.we-online.de/media/thumbs2/eican/thb_WR-MPC4_Stiftbuchse_2reihig_abgewinkelt_64901029522.jpg"  width="320"></a><p> / Details see: <a href="http://katalog.we-online.de/en/em/649_0xx_295_22">http://katalog.we-online.de/en/em/649_0xx_295_22</a><p> / Created 2014-06-06, Karrer Zheng<br> / 2014 (C) Würth Elektronik
footprint 64901629522
pins: 1, 2, 3, 4, 5, 6, 7, 8, 9, 10, 11, 12, 13, 14, 15, 16

## 64901821022
designator J?, comment <b>WR-MPC4-4.20mm Male Dual Row Angled Header with Mounting Flanges for Screw-in Retention,18 pins</b>=>Code : Con_WTB_MPC4_2_PCB_64901821022 / <br><a href="http://katalog.we-online.de/media/thumbs2/eican/thb_Con_WTB_MPC4_2_PCB_6490xx21022_pf2.jpg" title="Enlarge picture"> / <img src="http://katalog.we-online.de/media/thumbs2/eican/thb_Con_WTB_MPC4_2_PCB_6490xx21022_pf2.jpg"  width="320"></a><p> / Details see: <a href="http://katalog.we-online.de/en/em/649_0xx_210_22">http://katalog.we-online.de/en/em/649_0xx_210_22</a><p> / Created 2014-06-06, Karrer Zheng<br> / 2014 (C) Würth Elektronik
footprint 64901821022
pins: 1, 2, 3, 4, 5, 6, 7, 8, 9, 10, 11, 12, 13, 14, 15, 16, 17, 18

## 64901821122
designator J?, comment <b>WR-MPC4 4.20mm Male Dual Row Vertical Header, 18 Pins</b>=>Code : Con_WTB_MPC4_2_PCB_64901821122 / <br><a href="http://katalog.we-online.de/media/thumbs2/eican/thb_Con_WTB_MPC4_2_PCB_6490xx21122_pf2.jpg" title="Enlarge picture"> / <img src="http://katalog.we-online.de/media/thumbs2/eican/thb_Con_WTB_MPC4_2_PCB_6490xx21122_pf2.jpg"  width="320"></a><p> / Details see: <a href="http://katalog.we-online.de/en/em/649_0xx_211_22">http://katalog.we-online.de/en/em/649_0xx_211_22</a><p> / Created 2014-06-06, Karrer Zheng<br> / 2014 (C) Würth Elektronik
footprint 64901821122
pins: 1, 2, 3, 4, 5, 6, 7, 8, 9, 10, 11, 12, 13, 14, 15, 16, 17, 18

## 64901829522
designator J?, comment <b>WR-MPC4-4.20mm Male Dual Row Angled Header,18 pins</b>=>Code : WR-MPC4_Stiftbuchse_2reihig_abgewinkelt_64901829522 / <br><a href="http://katalog.we-online.de/media/thumbs2/eican/thb_WR-MPC4_Stiftbuchse_2reihig_abgewinkelt_64901029522.jpg" title="Enlarge picture"> / <img src="http://katalog.we-online.de/media/thumbs2/eican/thb_WR-MPC4_Stiftbuchse_2reihig_abgewinkelt_64901029522.jpg"  width="320"></a><p> / Details see: <a href="http://katalog.we-online.de/en/em/649_0xx_295_22">http://katalog.we-online.de/en/em/649_0xx_295_22</a><p> / Created 2014-06-06, Karrer Zheng<br> / 2014 (C) Würth Elektronik
footprint 64901829522
pins: 1, 2, 3, 4, 5, 6, 7, 8, 9, 10, 11, 12, 13, 14, 15, 16, 17, 18

## 64902021022
designator J?, comment <b>WR-MPC4-4.20mm Male Dual Row Angled Header with Mounting Flanges for Screw-in Retention,20 pins</b>=>Code : Con_WTB_MPC4_2_PCB_64902021022 / <br><a href="http://katalog.we-online.de/media/thumbs2/eican/thb_Con_WTB_MPC4_2_PCB_6490xx21022_pf2.jpg" title="Enlarge picture"> / <img src="http://katalog.we-online.de/media/thumbs2/eican/thb_Con_WTB_MPC4_2_PCB_6490xx21022_pf2.jpg"  width="320"></a><p> / Details see: <a href="http://katalog.we-online.de/en/em/649_0xx_210_22">http://katalog.we-online.de/en/em/649_0xx_210_22</a><p> / Created 2014-06-06, Karrer Zheng<br> / 2014 (C) Würth Elektronik
footprint 64902021022
pins: 1, 2, 3, 4, 5, 6, 7, 8, 9, 10, 11, 12, 13, 14, 15, 16, 17, 18, 19, 20

## 64902021122
designator J?, comment <b>WR-MPC4 4.20mm Male Dual Row Vertical Header, 20 Pins</b>=>Code : Con_WTB_MPC4_2_PCB_64902021122 / <br><a href="http://katalog.we-online.de/media/thumbs2/eican/thb_Con_WTB_MPC4_2_PCB_6490xx21122_pf2.jpg" title="Enlarge picture"> / <img src="http://katalog.we-online.de/media/thumbs2/eican/thb_Con_WTB_MPC4_2_PCB_6490xx21122_pf2.jpg"  width="320"></a><p> / Details see: <a href="http://katalog.we-online.de/en/em/649_0xx_211_22">http://katalog.we-online.de/en/em/649_0xx_211_22</a><p> / Created 2014-06-06, Karrer Zheng<br> / 2014 (C) Würth Elektronik
footprint 64902021122
pins: 1, 2, 3, 4, 5, 6, 7, 8, 9, 10, 11, 12, 13, 14, 15, 16, 17, 18, 19, 20

## 64902029522
designator J?, comment <b>WR-MPC4-4.20mm Male Dual Row Angled Header,20 pins</b>=>Code : WR-MPC4_Stiftbuchse_2reihig_abgewinkelt_64902029522 / <br><a href="http://katalog.we-online.de/media/thumbs2/eican/thb_WR-MPC4_Stiftbuchse_2reihig_abgewinkelt_64901029522.jpg" title="Enlarge picture"> / <img src="http://katalog.we-online.de/media/thumbs2/eican/thb_WR-MPC4_Stiftbuchse_2reihig_abgewinkelt_64901029522.jpg"  width="320"></a><p> / Details see: <a href="http://katalog.we-online.de/en/em/649_0xx_295_22">http://katalog.we-online.de/en/em/649_0xx_295_22</a><p> / Created 2014-06-06, Karrer Zheng<br> / 2014 (C) Würth Elektronik
footprint 64902029522
pins: 1, 2, 3, 4, 5, 6, 7, 8, 9, 10, 11, 12, 13, 14, 15, 16, 17, 18, 19, 20

## 64902221022
designator J?, comment <b>WR-MPC4-4.20mm Male Dual Row Angled Header with Mounting Flanges for Screw-in Retention,22 pins</b>=>Code : Con_WTB_MPC4_2_PCB_64902221022 / <br><a href="http://katalog.we-online.de/media/thumbs2/eican/thb_Con_WTB_MPC4_2_PCB_6490xx21022_pf2.jpg" title="Enlarge picture"> / <img src="http://katalog.we-online.de/media/thumbs2/eican/thb_Con_WTB_MPC4_2_PCB_6490xx21022_pf2.jpg"  width="320"></a><p> / Details see: <a href="http://katalog.we-online.de/en/em/649_0xx_210_22">http://katalog.we-online.de/en/em/649_0xx_210_22</a><p> / Created 2014-06-06, Karrer Zheng<br> / 2014 (C) Würth Elektronik
footprint 64902221022
pins: 1, 2, 3, 4, 5, 6, 7, 8, 9, 10, 11, 12, 13, 14, 15, 16, 17, 18, 19, 20, 21, 22

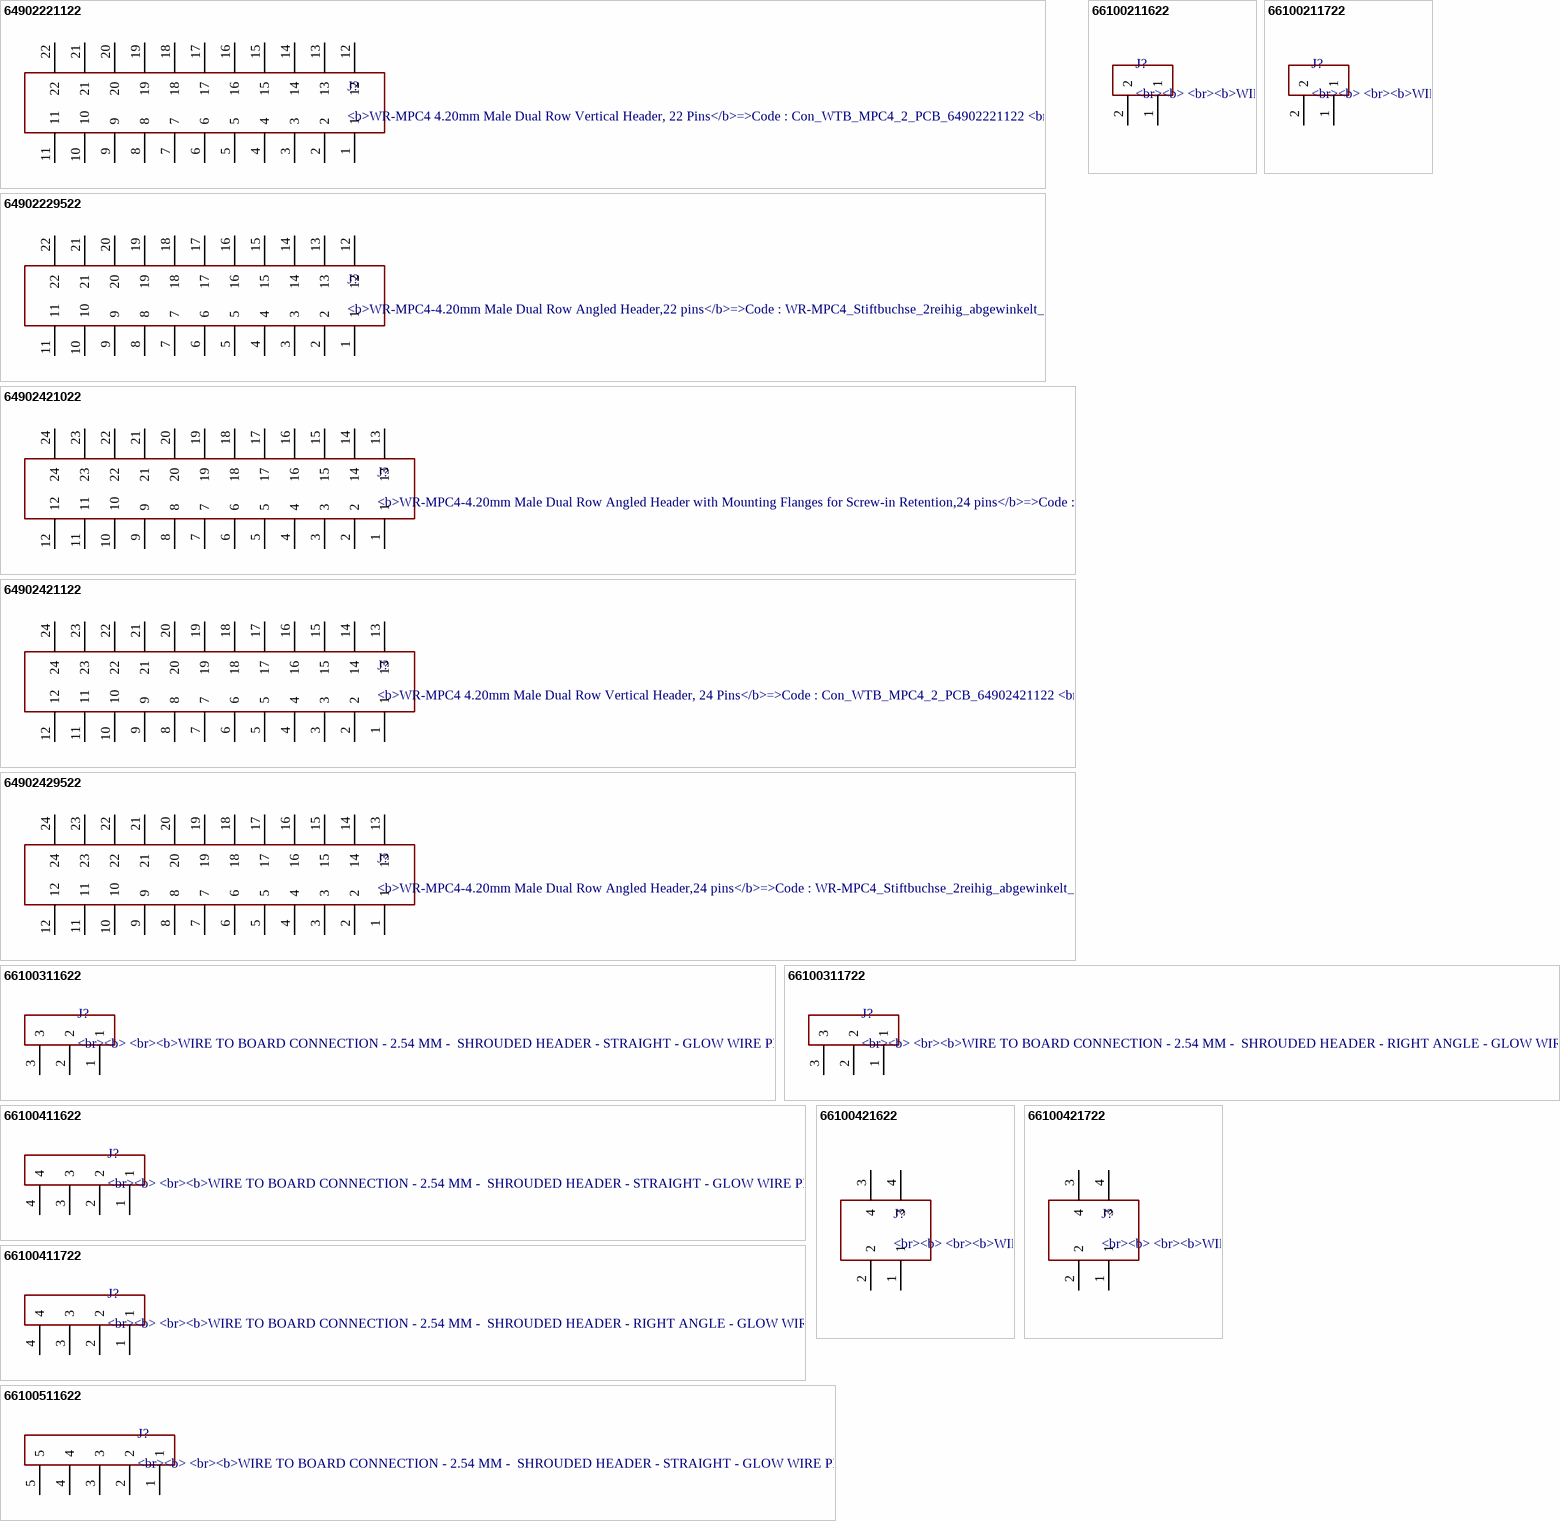
[diagram p28: symbols 64902221122 to 66100511622]